# Altium integrated library Lattice Semiconductor ECP3.IntLib: 126 symbols (part 3 of 29)
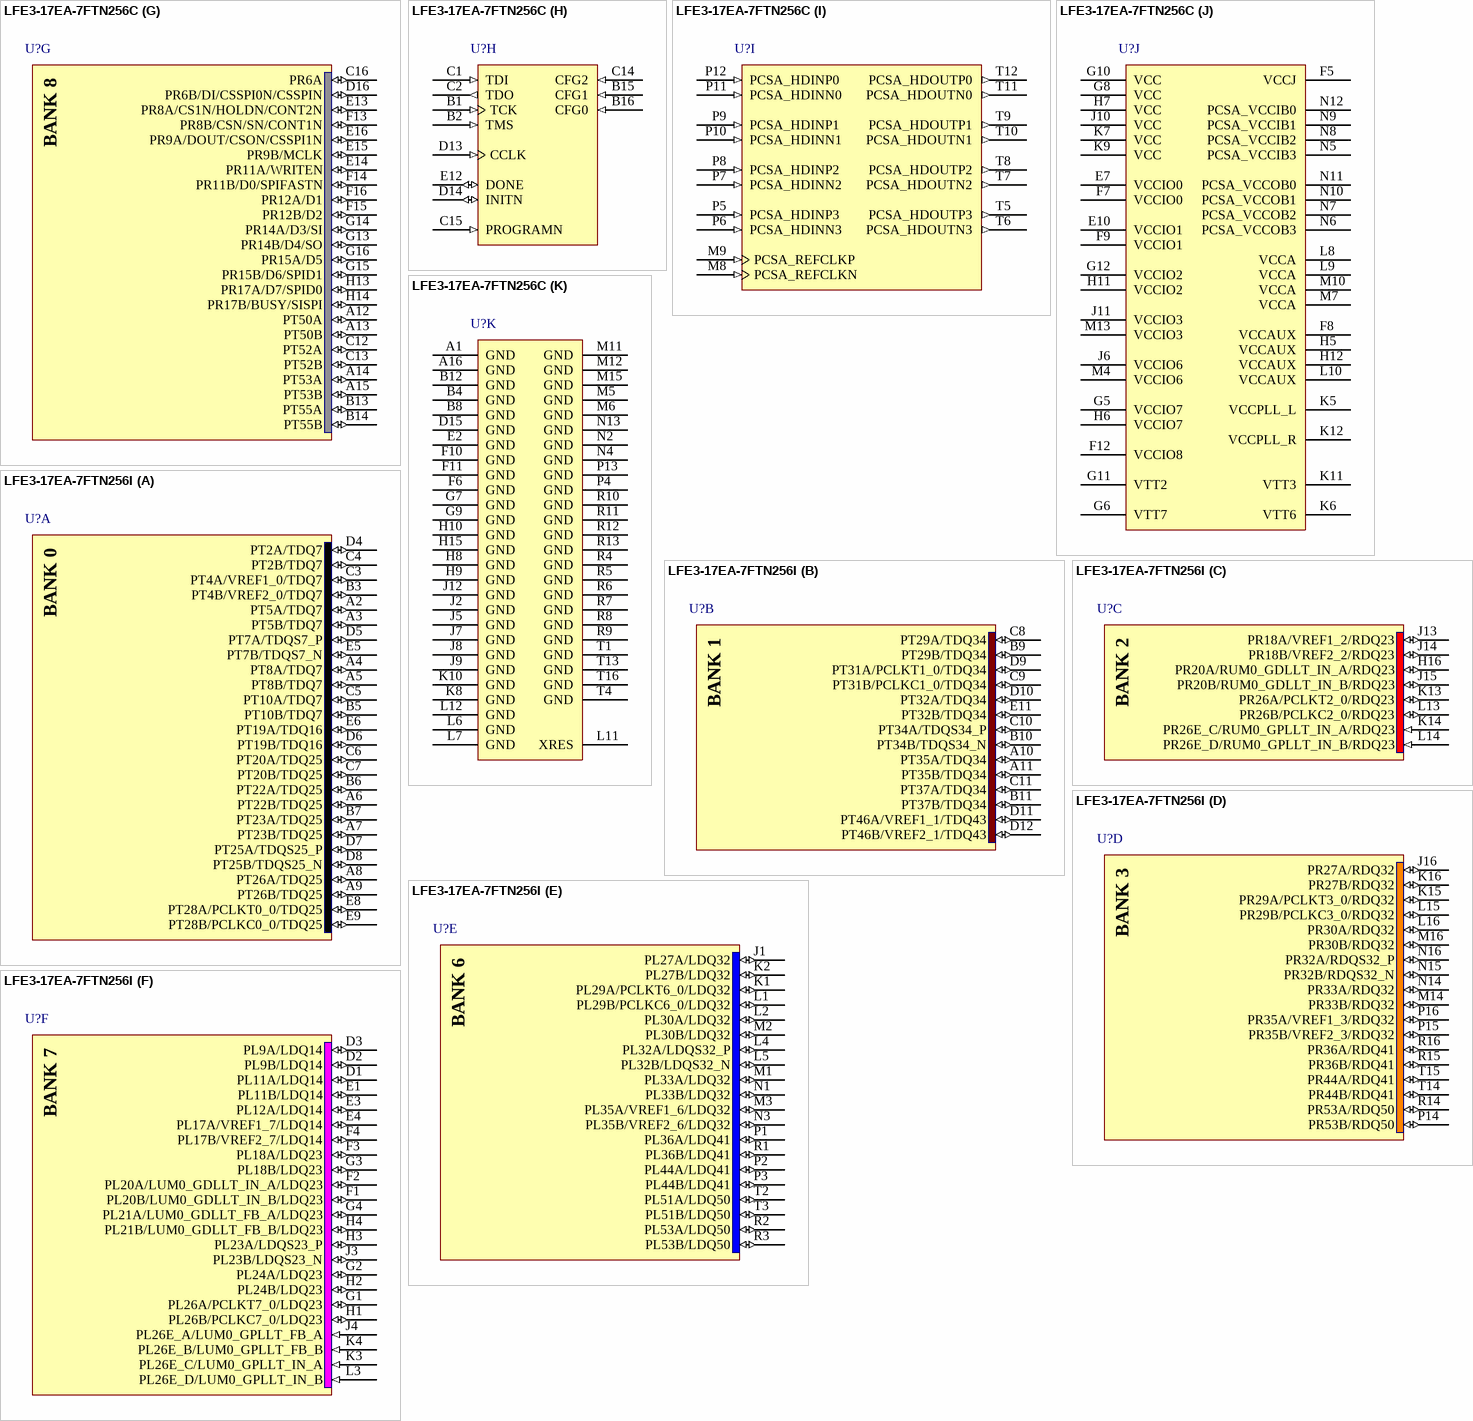
[diagram p258: symbols LFE3-17EA-7FTN256C to LFE3-17EA-7FTN256I]

## LFE3-17EA-7FTN256C
designator U?
ECP3 1.2V FPGA, 133 I/Os, 17K LUTs, 256-Pin BGA, Speed Grade 7, Commercial Grade, Pb-Free; DatasheetVersion: Ver 01.9EA, Jul-2011; PackageVersion: ver02.8, Jul-2011; PackageReference: ftBGA256_2; PackageDescription: 256-Ball ftBGA Package Option 2: LatticeECP3; Code_IPC: BGA100P16X16-256; ComponentLink1Description: Manufacturer URL; ComponentLink1URL: http://www.latticesemi.com/; ComponentLink2Description: Datasheet; ComponentLink2URL: http://www.latticesemi.com/documents/ds1021ea.pdf; ComponentLink3Description: Package Specification; ComponentLink3URL: http://www.latticesemi.com/lit/docs/package/pkg.pdf
footprint ftBGA256_2 (BGA, 256-Leads, Body 17x17mm, Pitch 1mm)
part A pins: A2 PT5A/TDQ7 (io), A3 PT5B/TDQ7 (io), A4 PT8A/TDQ7 (io), A5 PT8B/TDQ7 (io), A6 PT22B/TDQ25 (io), A7 PT23B/TDQ25 (io), A8 PT26A/TDQ25 (io), A9 PT26B/TDQ25 (io), B3 PT4B/VREF2_0/TDQ7 (io), B5 PT10B/TDQ7 (io), B6 PT22A/TDQ25 (io), B7 PT23A/TDQ25 (io), C3 PT4A/VREF1_0/TDQ7 (io), C4 PT2B/TDQ7 (io), C5 PT10A/TDQ7 (io), C6 PT20A/TDQ25 (io), C7 PT20B/TDQ25 (io), D4 PT2A/TDQ7 (io), D5 PT7A/TDQS7_P (io), D6 PT19B/TDQ16 (io), D7 PT25A/TDQS25_P (io), D8 PT25B/TDQS25_N (io), E5 PT7B/TDQS7_N (io), E6 PT19A/TDQ16 (io), E8 PT28A/PCLKT0_0/TDQ25 (io), E9 PT28B/PCLKC0_0/TDQ25 (io)
part B pins: A10 PT35A/TDQ34 (io), A11 PT35B/TDQ34 (io), B9 PT29B/TDQ34 (io), B10 PT34B/TDQS34_N (io), B11 PT37B/TDQ34 (io), C8 PT29A/TDQ34 (io), C9 PT31B/PCLKC1_0/TDQ34 (io), C10 PT34A/TDQS34_P (io), C11 PT37A/TDQ34 (io), D9 PT31A/PCLKT1_0/TDQ34 (io), D10 PT32A/TDQ34 (io), D11 PT46A/VREF1_1/TDQ43 (io), D12 PT46B/VREF2_1/TDQ43 (io), E11 PT32B/TDQ34 (io)
part C pins: H16 PR20A/RUM0_GDLLT_IN_A/RDQ23 (io), J13 PR18A/VREF1_2/RDQ23 (io), J14 PR18B/VREF2_2/RDQ23 (io), J15 PR20B/RUM0_GDLLT_IN_B/RDQ23 (io), K13 PR26A/PCLKT2_0/RDQ23 (io), K14 PR26E_C/RUM0_GPLLT_IN_A/RDQ23 (in), L13 PR26B/PCLKC2_0/RDQ23 (io), L14 PR26E_D/RUM0_GPLLT_IN_B/RDQ23 (in)
part D pins: J16 PR27A/RDQ32 (io), K15 PR29A/PCLKT3_0/RDQ32 (io), K16 PR27B/RDQ32 (io), L15 PR29B/PCLKC3_0/RDQ32 (io), L16 PR30A/RDQ32 (io), M14 PR33B/RDQ32 (io), M16 PR30B/RDQ32 (io), N14 PR33A/RDQ32 (io), N15 PR32B/RDQS32_N (io), N16 PR32A/RDQS32_P (io), P14 PR53B/RDQ50 (io), P15 PR35B/VREF2_3/RDQ32 (io), P16 PR35A/VREF1_3/RDQ32 (io), R14 PR53A/RDQ50 (io), R15 PR36B/RDQ41 (io), R16 PR36A/RDQ41 (io), T14 PR44B/RDQ41 (io), T15 PR44A/RDQ41 (io)
part E pins: J1 PL27A/LDQ32 (io), K1 PL29A/PCLKT6_0/LDQ32 (io), K2 PL27B/LDQ32 (io), L1 PL29B/PCLKC6_0/LDQ32 (io), L2 PL30A/LDQ32 (io), L4 PL32A/LDQS32_P (io), L5 PL32B/LDQS32_N (io), M1 PL33A/LDQ32 (io), M2 PL30B/LDQ32 (io), M3 PL35A/VREF1_6/LDQ32 (io), N1 PL33B/LDQ32 (io), N3 PL35B/VREF2_6/LDQ32 (io), P1 PL36A/LDQ41 (io), P2 PL44A/LDQ41 (io), P3 PL44B/LDQ41 (io), R1 PL36B/LDQ41 (io), R2 PL53A/LDQ50 (io), R3 PL53B/LDQ50 (io), T2 PL51A/LDQ50 (io), T3 PL51B/LDQ50 (io)
part F pins: D1 PL11A/LDQ14 (io), D2 PL9B/LDQ14 (io), D3 PL9A/LDQ14 (io), E1 PL11B/LDQ14 (io), E3 PL12A/LDQ14 (io), E4 PL17A/VREF1_7/LDQ14 (io), F1 PL20B/LUM0_GDLLT_IN_B/LDQ23 (io), F2 PL20A/LUM0_GDLLT_IN_A/LDQ23 (io), F3 PL18A/LDQ23 (io), F4 PL17B/VREF2_7/LDQ14 (io), G1 PL26A/PCLKT7_0/LDQ23 (io), G2 PL24A/LDQ23 (io), G3 PL18B/LDQ23 (io), G4 PL21A/LUM0_GDLLT_FB_A/LDQ23 (io), H1 PL26B/PCLKC7_0/LDQ23 (io), H2 PL24B/LDQ23 (io), H3 PL23A/LDQS23_P (io), H4 PL21B/LUM0_GDLLT_FB_B/LDQ23 (io), J3 PL23B/LDQS23_N (io), J4 PL26E_A/LUM0_GPLLT_FB_A (in), K3 PL26E_C/LUM0_GPLLT_IN_A (in), K4 PL26E_B/LUM0_GPLLT_FB_B (in), L3 PL26E_D/LUM0_GPLLT_IN_B (in)
part G pins: A12 PT50A (io), A13 PT50B (io), A14 PT53A (io), A15 PT53B (io), B13 PT55A (io), B14 PT55B (io), C12 PT52A (io), C13 PT52B (io), C16 PR6A (io), D16 PR6B/DI/CSSPI0N/CSSPIN (io), E13 PR8A/CS1N/HOLDN/CONT2N (io), E14 PR11A/WRITEN (io), E15 PR9B/MCLK (io), E16 PR9A/DOUT/CSON/CSSPI1N (io), F13 PR8B/CSN/SN/CONT1N (io), F14 PR11B/D0/SPIFASTN (io), F15 PR12B/D2 (io), F16 PR12A/D1 (io), G13 PR14B/D4/SO (io), G14 PR14A/D3/SI (io), G15 PR15B/D6/SPID1 (io), G16 PR15A/D5 (io), H13 PR17A/D7/SPID0 (io), H14 PR17B/BUSY/SISPI (io)
part H pins: B1 TCK (in), B2 TMS (in), B15 CFG1 (in), B16 CFG0 (in), C1 TDI (in), C2 TDO (out), C14 CFG2 (in), C15 PROGRAMN (in), D13 CCLK (in), D14 INITN (io), E12 DONE (io)
part I pins: M8 PCSA_REFCLKN (in), M9 PCSA_REFCLKP (in), P5 PCSA_HDINP3 (in), P6 PCSA_HDINN3 (in), P7 PCSA_HDINN2 (in), P8 PCSA_HDINP2 (in), P9 PCSA_HDINP1 (in), P10 PCSA_HDINN1 (in), P11 PCSA_HDINN0 (in), P12 PCSA_HDINP0 (in), T5 PCSA_HDOUTP3 (out), T6 PCSA_HDOUTN3 (out), T7 PCSA_HDOUTN2 (out), T8 PCSA_HDOUTP2 (out), T9 PCSA_HDOUTP1 (out), T10 PCSA_HDOUTN1 (out), T11 PCSA_HDOUTN0 (out), T12 PCSA_HDOUTP0 (out)
part J pins: E7 VCCIO0 (power), E10 VCCIO1 (power), F5 VCCJ (power), F7 VCCIO0 (power), F8 VCCAUX (power), F9 VCCIO1 (power), F12 VCCIO8 (power), G5 VCCIO7 (power), G6 VTT7 (power), G8 VCC (power), G10 VCC (power), G11 VTT2 (power), G12 VCCIO2 (power), H5 VCCAUX (power), H6 VCCIO7 (power), H7 VCC (power), H11 VCCIO2 (power), H12 VCCAUX (power), J6 VCCIO6 (power), J10 VCC (power), J11 VCCIO3 (power), K5 VCCPLL_L (power), K6 VTT6 (power), K7 VCC (power), K9 VCC (power), K11 VTT3 (power), K12 VCCPLL_R (power), L8 VCCA (power), L9 VCCA (power), L10 VCCAUX (power), M4 VCCIO6 (power), M7 VCCA (power), M10 VCCA (power), M13 VCCIO3 (power), N5 PCSA_VCCIB3 (power), N6 PCSA_VCCOB3 (power), N7 PCSA_VCCOB2 (power), N8 PCSA_VCCIB2 (power), N9 PCSA_VCCIB1 (power), N10 PCSA_VCCOB1 (power), N11 PCSA_VCCOB0 (power), N12 PCSA_VCCIB0 (power)
part K pins: A1 GND (power), A16 GND (power), B4 GND (power), B8 GND (power), B12 GND (power), D15 GND (power), E2 GND (power), F6 GND (power), F10 GND (power), F11 GND (power), G7 GND (power), G9 GND (power), H8 GND (power), H9 GND (power), H10 GND (power), H15 GND (power), J2 GND (power), J5 GND (power), J7 GND (power), J8 GND (power), J9 GND (power), J12 GND (power), K8 GND (power), K10 GND (power), L6 GND (power), L7 GND (power), L11 XRES, L12 GND (power), M5 GND (power), M6 GND (power), M11 GND (power), M12 GND (power), M15 GND (power), N2 GND (power), N4 GND (power), N13 GND (power), P4 GND (power), P13 GND (power), R4 GND (power), R5 GND (power), R6 GND (power), R7 GND (power), R8 GND (power), R9 GND (power), R10 GND (power), R11 GND (power), R12 GND (power), R13 GND (power), T1 GND (power), T4 GND (power), T13 GND (power), T16 GND (power)
part A text: BANK 0
part B text: BANK 1
part C text: BANK 2
part D text: BANK 3
part E text: BANK 6
part F text: BANK 7
part G text: BANK 8

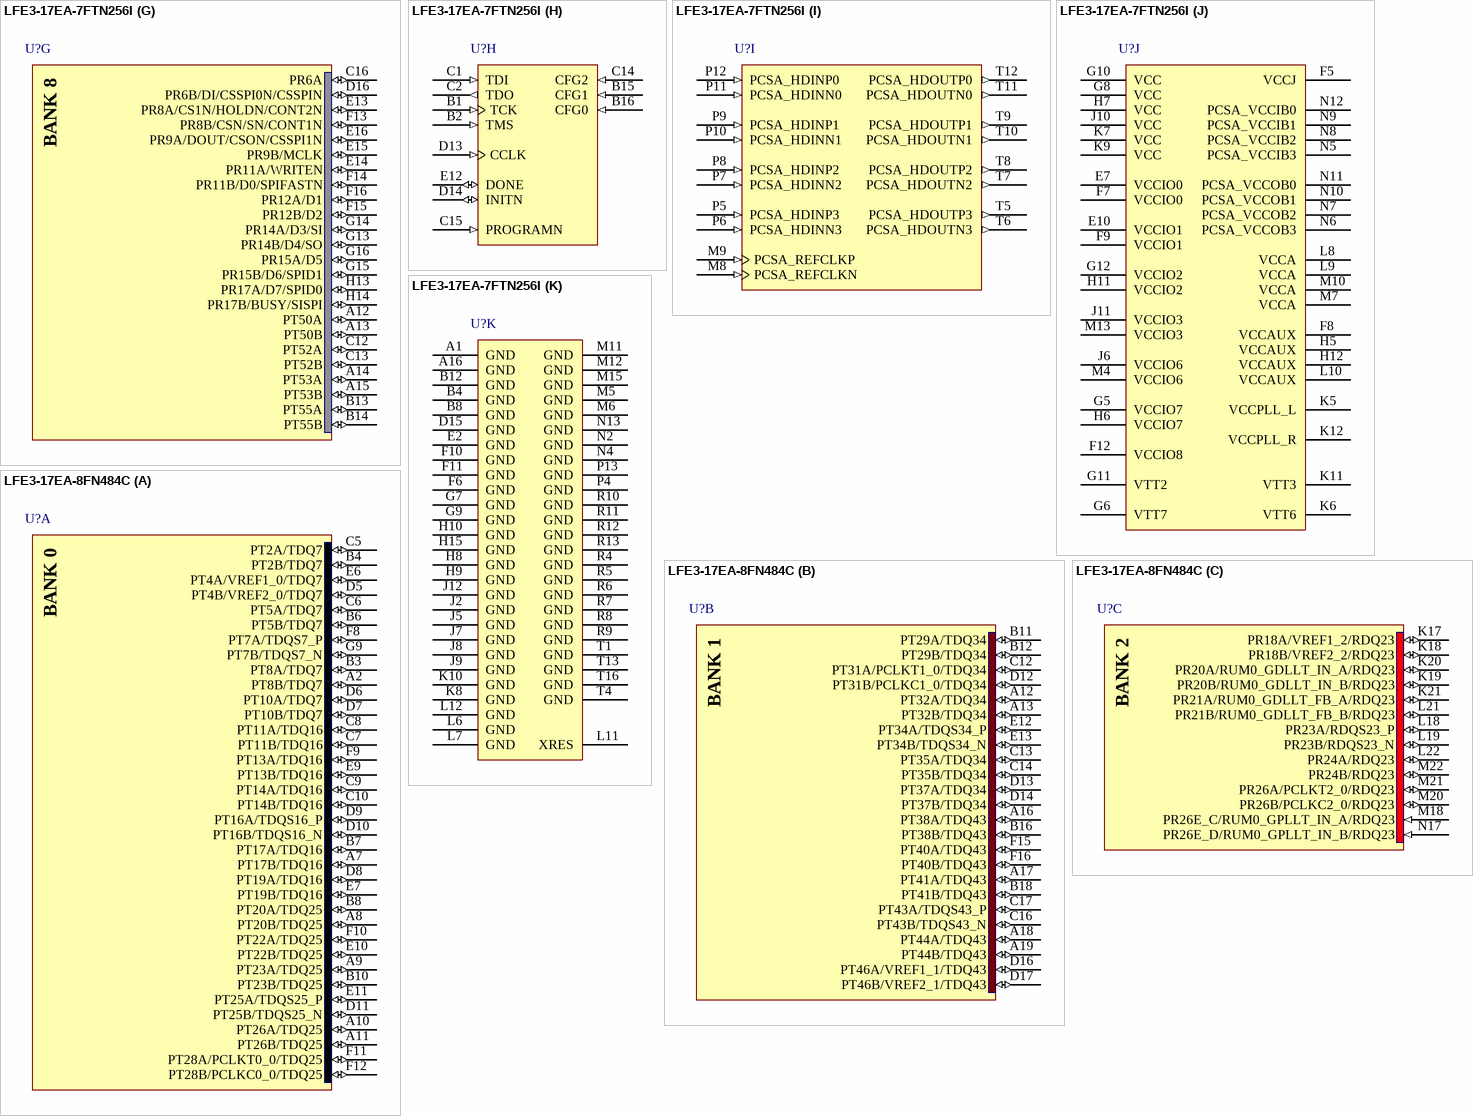
[diagram p9: symbols LFE3-17EA-7FTN256I to LFE3-17EA-8FN484C]

## LFE3-17EA-7FTN256I
designator U?
ECP3 1.2V FPGA, 133 I/Os, 17K LUTs, 256-Pin BGA, Speed Grade 7, Industrial Grade, Pb-Free; DatasheetVersion: Ver 01.9EA, Jul-2011; PackageVersion: ver02.8, Jul-2011; PackageReference: ftBGA256_2; PackageDescription: 256-Ball ftBGA Package Option 2: LatticeECP3; Code_IPC: BGA100P16X16-256; ComponentLink1Description: Manufacturer URL; ComponentLink1URL: http://www.latticesemi.com/; ComponentLink2Description: Datasheet; ComponentLink2URL: http://www.latticesemi.com/documents/ds1021ea.pdf; ComponentLink3Description: Package Specification; ComponentLink3URL: http://www.latticesemi.com/lit/docs/package/pkg.pdf
footprint ftBGA256_2 (BGA, 256-Leads, Body 17x17mm, Pitch 1mm)
part A pins: A2 PT5A/TDQ7 (io), A3 PT5B/TDQ7 (io), A4 PT8A/TDQ7 (io), A5 PT8B/TDQ7 (io), A6 PT22B/TDQ25 (io), A7 PT23B/TDQ25 (io), A8 PT26A/TDQ25 (io), A9 PT26B/TDQ25 (io), B3 PT4B/VREF2_0/TDQ7 (io), B5 PT10B/TDQ7 (io), B6 PT22A/TDQ25 (io), B7 PT23A/TDQ25 (io), C3 PT4A/VREF1_0/TDQ7 (io), C4 PT2B/TDQ7 (io), C5 PT10A/TDQ7 (io), C6 PT20A/TDQ25 (io), C7 PT20B/TDQ25 (io), D4 PT2A/TDQ7 (io), D5 PT7A/TDQS7_P (io), D6 PT19B/TDQ16 (io), D7 PT25A/TDQS25_P (io), D8 PT25B/TDQS25_N (io), E5 PT7B/TDQS7_N (io), E6 PT19A/TDQ16 (io), E8 PT28A/PCLKT0_0/TDQ25 (io), E9 PT28B/PCLKC0_0/TDQ25 (io)
part B pins: A10 PT35A/TDQ34 (io), A11 PT35B/TDQ34 (io), B9 PT29B/TDQ34 (io), B10 PT34B/TDQS34_N (io), B11 PT37B/TDQ34 (io), C8 PT29A/TDQ34 (io), C9 PT31B/PCLKC1_0/TDQ34 (io), C10 PT34A/TDQS34_P (io), C11 PT37A/TDQ34 (io), D9 PT31A/PCLKT1_0/TDQ34 (io), D10 PT32A/TDQ34 (io), D11 PT46A/VREF1_1/TDQ43 (io), D12 PT46B/VREF2_1/TDQ43 (io), E11 PT32B/TDQ34 (io)
part C pins: H16 PR20A/RUM0_GDLLT_IN_A/RDQ23 (io), J13 PR18A/VREF1_2/RDQ23 (io), J14 PR18B/VREF2_2/RDQ23 (io), J15 PR20B/RUM0_GDLLT_IN_B/RDQ23 (io), K13 PR26A/PCLKT2_0/RDQ23 (io), K14 PR26E_C/RUM0_GPLLT_IN_A/RDQ23 (in), L13 PR26B/PCLKC2_0/RDQ23 (io), L14 PR26E_D/RUM0_GPLLT_IN_B/RDQ23 (in)
part D pins: J16 PR27A/RDQ32 (io), K15 PR29A/PCLKT3_0/RDQ32 (io), K16 PR27B/RDQ32 (io), L15 PR29B/PCLKC3_0/RDQ32 (io), L16 PR30A/RDQ32 (io), M14 PR33B/RDQ32 (io), M16 PR30B/RDQ32 (io), N14 PR33A/RDQ32 (io), N15 PR32B/RDQS32_N (io), N16 PR32A/RDQS32_P (io), P14 PR53B/RDQ50 (io), P15 PR35B/VREF2_3/RDQ32 (io), P16 PR35A/VREF1_3/RDQ32 (io), R14 PR53A/RDQ50 (io), R15 PR36B/RDQ41 (io), R16 PR36A/RDQ41 (io), T14 PR44B/RDQ41 (io), T15 PR44A/RDQ41 (io)
part E pins: J1 PL27A/LDQ32 (io), K1 PL29A/PCLKT6_0/LDQ32 (io), K2 PL27B/LDQ32 (io), L1 PL29B/PCLKC6_0/LDQ32 (io), L2 PL30A/LDQ32 (io), L4 PL32A/LDQS32_P (io), L5 PL32B/LDQS32_N (io), M1 PL33A/LDQ32 (io), M2 PL30B/LDQ32 (io), M3 PL35A/VREF1_6/LDQ32 (io), N1 PL33B/LDQ32 (io), N3 PL35B/VREF2_6/LDQ32 (io), P1 PL36A/LDQ41 (io), P2 PL44A/LDQ41 (io), P3 PL44B/LDQ41 (io), R1 PL36B/LDQ41 (io), R2 PL53A/LDQ50 (io), R3 PL53B/LDQ50 (io), T2 PL51A/LDQ50 (io), T3 PL51B/LDQ50 (io)
part F pins: D1 PL11A/LDQ14 (io), D2 PL9B/LDQ14 (io), D3 PL9A/LDQ14 (io), E1 PL11B/LDQ14 (io), E3 PL12A/LDQ14 (io), E4 PL17A/VREF1_7/LDQ14 (io), F1 PL20B/LUM0_GDLLT_IN_B/LDQ23 (io), F2 PL20A/LUM0_GDLLT_IN_A/LDQ23 (io), F3 PL18A/LDQ23 (io), F4 PL17B/VREF2_7/LDQ14 (io), G1 PL26A/PCLKT7_0/LDQ23 (io), G2 PL24A/LDQ23 (io), G3 PL18B/LDQ23 (io), G4 PL21A/LUM0_GDLLT_FB_A/LDQ23 (io), H1 PL26B/PCLKC7_0/LDQ23 (io), H2 PL24B/LDQ23 (io), H3 PL23A/LDQS23_P (io), H4 PL21B/LUM0_GDLLT_FB_B/LDQ23 (io), J3 PL23B/LDQS23_N (io), J4 PL26E_A/LUM0_GPLLT_FB_A (in), K3 PL26E_C/LUM0_GPLLT_IN_A (in), K4 PL26E_B/LUM0_GPLLT_FB_B (in), L3 PL26E_D/LUM0_GPLLT_IN_B (in)
part G pins: A12 PT50A (io), A13 PT50B (io), A14 PT53A (io), A15 PT53B (io), B13 PT55A (io), B14 PT55B (io), C12 PT52A (io), C13 PT52B (io), C16 PR6A (io), D16 PR6B/DI/CSSPI0N/CSSPIN (io), E13 PR8A/CS1N/HOLDN/CONT2N (io), E14 PR11A/WRITEN (io), E15 PR9B/MCLK (io), E16 PR9A/DOUT/CSON/CSSPI1N (io), F13 PR8B/CSN/SN/CONT1N (io), F14 PR11B/D0/SPIFASTN (io), F15 PR12B/D2 (io), F16 PR12A/D1 (io), G13 PR14B/D4/SO (io), G14 PR14A/D3/SI (io), G15 PR15B/D6/SPID1 (io), G16 PR15A/D5 (io), H13 PR17A/D7/SPID0 (io), H14 PR17B/BUSY/SISPI (io)
part H pins: B1 TCK (in), B2 TMS (in), B15 CFG1 (in), B16 CFG0 (in), C1 TDI (in), C2 TDO (out), C14 CFG2 (in), C15 PROGRAMN (in), D13 CCLK (in), D14 INITN (io), E12 DONE (io)
part I pins: M8 PCSA_REFCLKN (in), M9 PCSA_REFCLKP (in), P5 PCSA_HDINP3 (in), P6 PCSA_HDINN3 (in), P7 PCSA_HDINN2 (in), P8 PCSA_HDINP2 (in), P9 PCSA_HDINP1 (in), P10 PCSA_HDINN1 (in), P11 PCSA_HDINN0 (in), P12 PCSA_HDINP0 (in), T5 PCSA_HDOUTP3 (out), T6 PCSA_HDOUTN3 (out), T7 PCSA_HDOUTN2 (out), T8 PCSA_HDOUTP2 (out), T9 PCSA_HDOUTP1 (out), T10 PCSA_HDOUTN1 (out), T11 PCSA_HDOUTN0 (out), T12 PCSA_HDOUTP0 (out)
part J pins: E7 VCCIO0 (power), E10 VCCIO1 (power), F5 VCCJ (power), F7 VCCIO0 (power), F8 VCCAUX (power), F9 VCCIO1 (power), F12 VCCIO8 (power), G5 VCCIO7 (power), G6 VTT7 (power), G8 VCC (power), G10 VCC (power), G11 VTT2 (power), G12 VCCIO2 (power), H5 VCCAUX (power), H6 VCCIO7 (power), H7 VCC (power), H11 VCCIO2 (power), H12 VCCAUX (power), J6 VCCIO6 (power), J10 VCC (power), J11 VCCIO3 (power), K5 VCCPLL_L (power), K6 VTT6 (power), K7 VCC (power), K9 VCC (power), K11 VTT3 (power), K12 VCCPLL_R (power), L8 VCCA (power), L9 VCCA (power), L10 VCCAUX (power), M4 VCCIO6 (power), M7 VCCA (power), M10 VCCA (power), M13 VCCIO3 (power), N5 PCSA_VCCIB3 (power), N6 PCSA_VCCOB3 (power), N7 PCSA_VCCOB2 (power), N8 PCSA_VCCIB2 (power), N9 PCSA_VCCIB1 (power), N10 PCSA_VCCOB1 (power), N11 PCSA_VCCOB0 (power), N12 PCSA_VCCIB0 (power)
part K pins: A1 GND (power), A16 GND (power), B4 GND (power), B8 GND (power), B12 GND (power), D15 GND (power), E2 GND (power), F6 GND (power), F10 GND (power), F11 GND (power), G7 GND (power), G9 GND (power), H8 GND (power), H9 GND (power), H10 GND (power), H15 GND (power), J2 GND (power), J5 GND (power), J7 GND (power), J8 GND (power), J9 GND (power), J12 GND (power), K8 GND (power), K10 GND (power), L6 GND (power), L7 GND (power), L11 XRES, L12 GND (power), M5 GND (power), M6 GND (power), M11 GND (power), M12 GND (power), M15 GND (power), N2 GND (power), N4 GND (power), N13 GND (power), P4 GND (power), P13 GND (power), R4 GND (power), R5 GND (power), R6 GND (power), R7 GND (power), R8 GND (power), R9 GND (power), R10 GND (power), R11 GND (power), R12 GND (power), R13 GND (power), T1 GND (power), T4 GND (power), T13 GND (power), T16 GND (power)
part A text: BANK 0
part B text: BANK 1
part C text: BANK 2
part D text: BANK 3
part E text: BANK 6
part F text: BANK 7
part G text: BANK 8

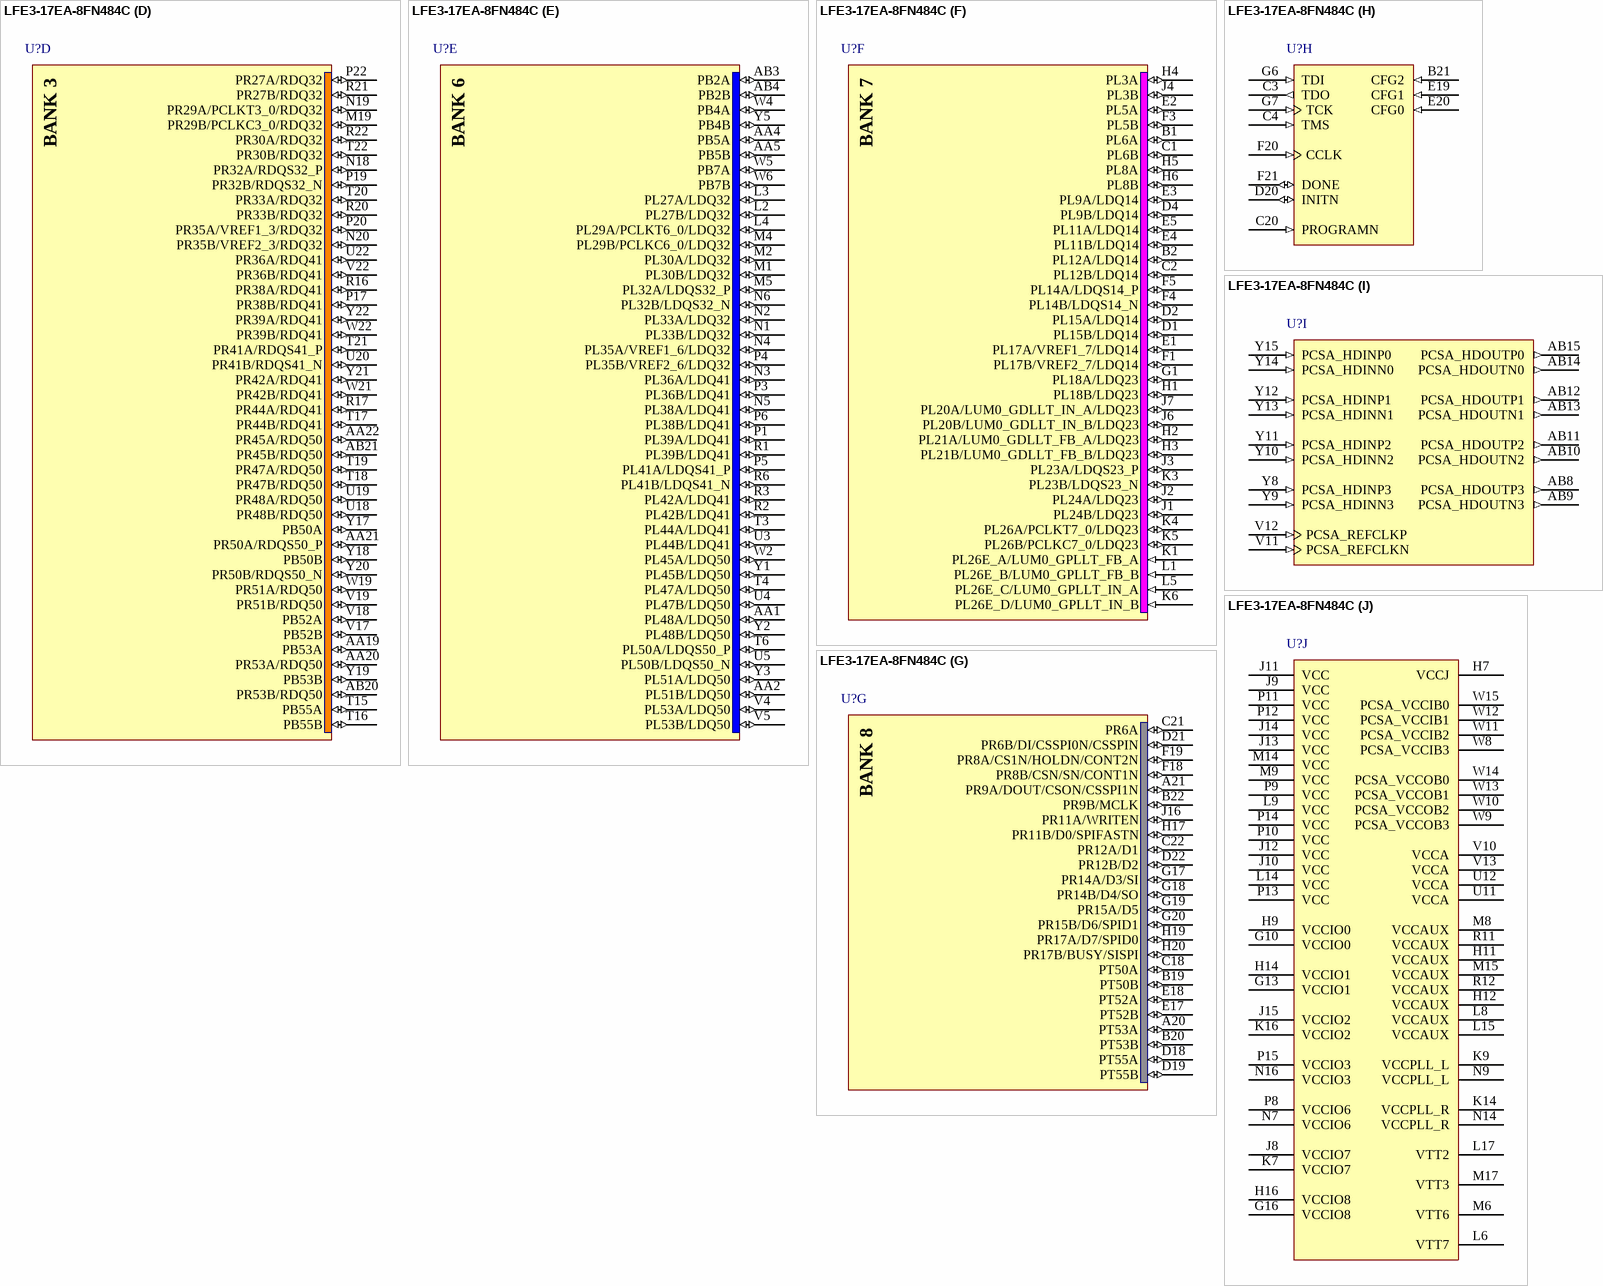
[diagram p10: symbol LFE3-17EA-8FN484C]

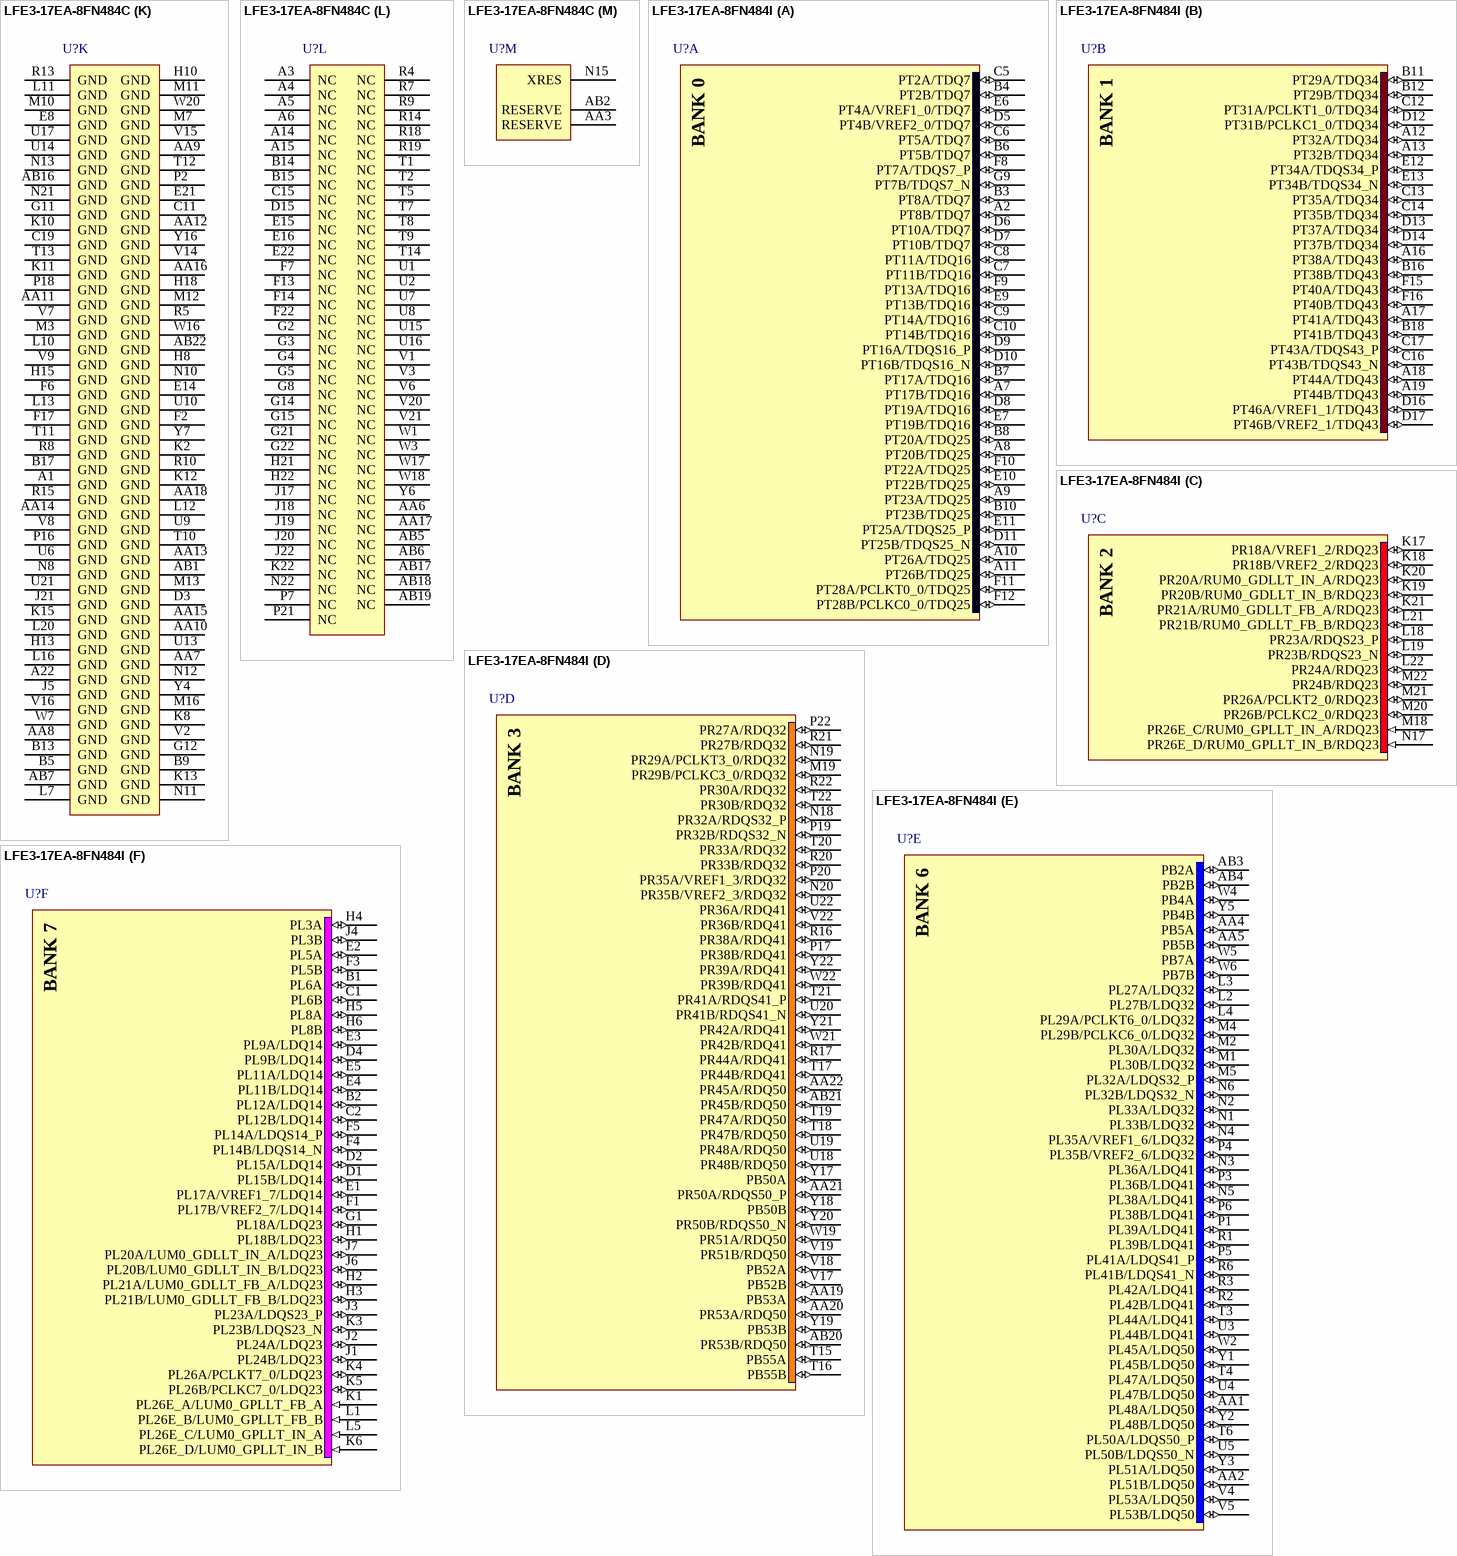
[diagram p11: symbols LFE3-17EA-8FN484C to LFE3-17EA-8FN484I]

## LFE3-17EA-8FN484C
designator U?
ECP3 1.2V FPGA, 222 I/Os, 17K LUTs, 484-Pin BGA, Speed Grade 8, Commercial Grade, Pb-Free; DatasheetVersion: Ver 01.9EA, Jul-2011; PackageVersion: ver02.8, Jul-2011; PackageReference: fpBGA484; PackageDescription: 484-Ball Fine Pitch Ball Grid Array (fpBGA484); Code_IPC: BGA100P22X22-484; ComponentLink1Description: Manufacturer URL; ComponentLink1URL: http://www.latticesemi.com/; ComponentLink2Description: Datasheet; ComponentLink2URL: http://www.latticesemi.com/documents/ds1021ea.pdf; ComponentLink3Description: Package Specification; ComponentLink3URL: http://www.latticesemi.com/lit/docs/package/pkg.pdf
footprint fpBGA484 (BGA, 484-Leads, Body 23x23mm, Pitch 1mm)
part A pins: A2 PT8B/TDQ7 (io), A7 PT17B/TDQ16 (io), A8 PT20B/TDQ25 (io), A9 PT23A/TDQ25 (io), A10 PT26A/TDQ25 (io), A11 PT26B/TDQ25 (io), B3 PT8A/TDQ7 (io), B4 PT2B/TDQ7 (io), B6 PT5B/TDQ7 (io), B7 PT17A/TDQ16 (io), B8 PT20A/TDQ25 (io), B10 PT23B/TDQ25 (io), C5 PT2A/TDQ7 (io), C6 PT5A/TDQ7 (io), C7 PT11B/TDQ16 (io), C8 PT11A/TDQ16 (io), C9 PT14A/TDQ16 (io), C10 PT14B/TDQ16 (io), D5 PT4B/VREF2_0/TDQ7 (io), D6 PT10A/TDQ7 (io), D7 PT10B/TDQ7 (io), D8 PT19A/TDQ16 (io), D9 PT16A/TDQS16_P (io), D10 PT16B/TDQS16_N (io), D11 PT25B/TDQS25_N (io), E6 PT4A/VREF1_0/TDQ7 (io), E7 PT19B/TDQ16 (io), E9 PT13B/TDQ16 (io), E10 PT22B/TDQ25 (io), E11 PT25A/TDQS25_P (io), F8 PT7A/TDQS7_P (io), F9 PT13A/TDQ16 (io), F10 PT22A/TDQ25 (io), F11 PT28A/PCLKT0_0/TDQ25 (io), F12 PT28B/PCLKC0_0/TDQ25 (io), G9 PT7B/TDQS7_N (io)
part B pins: A12 PT32A/TDQ34 (io), A13 PT32B/TDQ34 (io), A16 PT38A/TDQ43 (io), A17 PT41A/TDQ43 (io), A18 PT44A/TDQ43 (io), A19 PT44B/TDQ43 (io), B11 PT29A/TDQ34 (io), B12 PT29B/TDQ34 (io), B16 PT38B/TDQ43 (io), B18 PT41B/TDQ43 (io), C12 PT31A/PCLKT1_0/TDQ34 (io), C13 PT35A/TDQ34 (io), C14 PT35B/TDQ34 (io), C16 PT43B/TDQS43_N (io), C17 PT43A/TDQS43_P (io), D12 PT31B/PCLKC1_0/TDQ34 (io), D13 PT37A/TDQ34 (io), D14 PT37B/TDQ34 (io), D16 PT46A/VREF1_1/TDQ43 (io), D17 PT46B/VREF2_1/TDQ43 (io), E12 PT34A/TDQS34_P (io), E13 PT34B/TDQS34_N (io), F15 PT40A/TDQ43 (io), F16 PT40B/TDQ43 (io)
part C pins: K17 PR18A/VREF1_2/RDQ23 (io), K18 PR18B/VREF2_2/RDQ23 (io), K19 PR20B/RUM0_GDLLT_IN_B/RDQ23 (io), K20 PR20A/RUM0_GDLLT_IN_A/RDQ23 (io), K21 PR21A/RUM0_GDLLT_FB_A/RDQ23 (io), L18 PR23A/RDQS23_P (io), L19 PR23B/RDQS23_N (io), L21 PR21B/RUM0_GDLLT_FB_B/RDQ23 (io), L22 PR24A/RDQ23 (io), M18 PR26E_C/RUM0_GPLLT_IN_A/RDQ23 (in), M20 PR26B/PCLKC2_0/RDQ23 (io), M21 PR26A/PCLKT2_0/RDQ23 (io), M22 PR24B/RDQ23 (io), N17 PR26E_D/RUM0_GPLLT_IN_B/RDQ23 (in)
part D pins: AA19 PB53A (io), AA20 PR53A/RDQ50 (io), AA21 PR50A/RDQS50_P (io), AA22 PR45A/RDQ50 (io), AB20 PR53B/RDQ50 (io), AB21 PR45B/RDQ50 (io), M19 PR29B/PCLKC3_0/RDQ32 (io), N18 PR32A/RDQS32_P (io), N19 PR29A/PCLKT3_0/RDQ32 (io), N20 PR35B/VREF2_3/RDQ32 (io), P17 PR38B/RDQ41 (io), P19 PR32B/RDQS32_N (io), P20 PR35A/VREF1_3/RDQ32 (io), P22 PR27A/RDQ32 (io), R16 PR38A/RDQ41 (io), R17 PR44A/RDQ41 (io), R20 PR33B/RDQ32 (io), R21 PR27B/RDQ32 (io), R22 PR30A/RDQ32 (io), T15 PB55A (io), T16 PB55B (io), T17 PR44B/RDQ41 (io), T18 PR47B/RDQ50 (io), T19 PR47A/RDQ50 (io), T20 PR33A/RDQ32 (io), T21 PR41A/RDQS41_P (io), T22 PR30B/RDQ32 (io), U18 PR48B/RDQ50 (io), U19 PR48A/RDQ50 (io), U20 PR41B/RDQS41_N (io), U22 PR36A/RDQ41 (io), V17 PB52B (io), V18 PB52A (io), V19 PR51B/RDQ50 (io), V22 PR36B/RDQ41 (io), W19 PR51A/RDQ50 (io), W21 PR42B/RDQ41 (io), W22 PR39B/RDQ41 (io), Y17 PB50A (io), Y18 PB50B (io), Y19 PB53B (io), Y20 PR50B/RDQS50_N (io), Y21 PR42A/RDQ41 (io), Y22 PR39A/RDQ41 (io)
part E pins: AA1 PL48A/LDQ50 (io), AA2 PL51B/LDQ50 (io), AA4 PB5A (io), AA5 PB5B (io), AB3 PB2A (io), AB4 PB2B (io), L2 PL27B/LDQ32 (io), L3 PL27A/LDQ32 (io), L4 PL29A/PCLKT6_0/LDQ32 (io), M1 PL30B/LDQ32 (io), M2 PL30A/LDQ32 (io), M4 PL29B/PCLKC6_0/LDQ32 (io), M5 PL32A/LDQS32_P (io), N1 PL33B/LDQ32 (io), N2 PL33A/LDQ32 (io), N3 PL36A/LDQ41 (io), N4 PL35A/VREF1_6/LDQ32 (io), N5 PL38A/LDQ41 (io), N6 PL32B/LDQS32_N (io), P1 PL39A/LDQ41 (io), P3 PL36B/LDQ41 (io), P4 PL35B/VREF2_6/LDQ32 (io), P5 PL41A/LDQS41_P (io), P6 PL38B/LDQ41 (io), R1 PL39B/LDQ41 (io), R2 PL42B/LDQ41 (io), R3 PL42A/LDQ41 (io), R6 PL41B/LDQS41_N (io), T3 PL44A/LDQ41 (io), T4 PL47A/LDQ50 (io), T6 PL50A/LDQS50_P (io), U3 PL44B/LDQ41 (io), U4 PL47B/LDQ50 (io), U5 PL50B/LDQS50_N (io), V4 PL53A/LDQ50 (io), V5 PL53B/LDQ50 (io), W2 PL45A/LDQ50 (io), W4 PB4A (io), W5 PB7A (io), W6 PB7B (io), Y1 PL45B/LDQ50 (io), Y2 PL48B/LDQ50 (io), Y3 PL51A/LDQ50 (io), Y5 PB4B (io)
part F pins: B1 PL6A (io), B2 PL12A/LDQ14 (io), C1 PL6B (io), C2 PL12B/LDQ14 (io), D1 PL15B/LDQ14 (io), D2 PL15A/LDQ14 (io), D4 PL9B/LDQ14 (io), E1 PL17A/VREF1_7/LDQ14 (io), E2 PL5A (io), E3 PL9A/LDQ14 (io), E4 PL11B/LDQ14 (io), E5 PL11A/LDQ14 (io), F1 PL17B/VREF2_7/LDQ14 (io), F3 PL5B (io), F4 PL14B/LDQS14_N (io), F5 PL14A/LDQS14_P (io), G1 PL18A/LDQ23 (io), H1 PL18B/LDQ23 (io), H2 PL21A/LUM0_GDLLT_FB_A/LDQ23 (io), H3 PL21B/LUM0_GDLLT_FB_B/LDQ23 (io), H4 PL3A (io), H5 PL8A (io), H6 PL8B (io), J1 PL24B/LDQ23 (io), J2 PL24A/LDQ23 (io), J3 PL23A/LDQS23_P (io), J4 PL3B (io), J6 PL20B/LUM0_GDLLT_IN_B/LDQ23 (io), J7 PL20A/LUM0_GDLLT_IN_A/LDQ23 (io), K1 PL26E_A/LUM0_GPLLT_FB_A (in), K3 PL23B/LDQS23_N (io), K4 PL26A/PCLKT7_0/LDQ23 (io), K5 PL26B/PCLKC7_0/LDQ23 (io), K6 PL26E_D/LUM0_GPLLT_IN_B (in), L1 PL26E_B/LUM0_GPLLT_FB_B (in), L5 PL26E_C/LUM0_GPLLT_IN_A (in)
part G pins: A20 PT53A (io), A21 PR9A/DOUT/CSON/CSSPI1N (io), B19 PT50B (io), B20 PT53B (io), B22 PR9B/MCLK (io), C18 PT50A (io), C21 PR6A (io), C22 PR12A/D1 (io), D18 PT55A (io), D19 PT55B (io), D21 PR6B/DI/CSSPI0N/CSSPIN (io), D22 PR12B/D2 (io), E17 PT52B (io), E18 PT52A (io), F18 PR8B/CSN/SN/CONT1N (io), F19 PR8A/CS1N/HOLDN/CONT2N (io), G17 PR14A/D3/SI (io), G18 PR14B/D4/SO (io), G19 PR15A/D5 (io), G20 PR15B/D6/SPID1 (io), H17 PR11B/D0/SPIFASTN (io), H19 PR17A/D7/SPID0 (io), H20 PR17B/BUSY/SISPI (io), J16 PR11A/WRITEN (io)
part H pins: B21 CFG2 (in), C3 TDO (out), C4 TMS (in), C20 PROGRAMN (in), D20 INITN (io), E19 CFG1 (in), E20 CFG0 (in), F20 CCLK (in), F21 DONE (io), G6 TDI (in), G7 TCK (in)
part I pins: AB8 PCSA_HDOUTP3 (out), AB9 PCSA_HDOUTN3 (out), AB10 PCSA_HDOUTN2 (out), AB11 PCSA_HDOUTP2 (out), AB12 PCSA_HDOUTP1 (out), AB13 PCSA_HDOUTN1 (out), AB14 PCSA_HDOUTN0 (out), AB15 PCSA_HDOUTP0 (out), V11 PCSA_REFCLKN (in), V12 PCSA_REFCLKP (in), Y8 PCSA_HDINP3 (in), Y9 PCSA_HDINN3 (in), Y10 PCSA_HDINN2 (in), Y11 PCSA_HDINP2 (in), Y12 PCSA_HDINP1 (in), Y13 PCSA_HDINN1 (in), Y14 PCSA_HDINN0 (in), Y15 PCSA_HDINP0 (in)
part J pins: G10 VCCIO0 (power), G13 VCCIO1 (power), G16 VCCIO8 (power), H7 VCCJ (power), H9 VCCIO0 (power), H11 VCCAUX (power), H12 VCCAUX (power), H14 VCCIO1 (power), H16 VCCIO8 (power), J8 VCCIO7 (power), J9 VCC (power), J10 VCC (power), J11 VCC (power), J12 VCC (power), J13 VCC (power), J14 VCC (power), J15 VCCIO2 (power), K7 VCCIO7 (power), K9 VCCPLL_L (power), K14 VCCPLL_R (power), K16 VCCIO2 (power), L6 VTT7 (power), L8 VCCAUX (power), L9 VCC (power), L14 VCC (power), L15 VCCAUX (power), L17 VTT2 (power), M6 VTT6 (power), M8 VCCAUX (power), M9 VCC (power), M14 VCC (power), M15 VCCAUX (power), M17 VTT3 (power), N7 VCCIO6 (power), N9 VCCPLL_L (power), N14 VCCPLL_R (power), N16 VCCIO3 (power), P8 VCCIO6 (power), P9 VCC (power), P10 VCC (power), P11 VCC (power), P12 VCC (power), P13 VCC (power), P14 VCC (power), P15 VCCIO3 (power), R11 VCCAUX (power), R12 VCCAUX (power), U11 VCCA (power), U12 VCCA (power), V10 VCCA (power), V13 VCCA (power), W8 PCSA_VCCIB3 (power), W9 PCSA_VCCOB3 (power), W10 PCSA_VCCOB2 (power), W11 PCSA_VCCIB2 (power), W12 PCSA_VCCIB1 (power), W13 PCSA_VCCOB1 (power), W14 PCSA_VCCOB0 (power), W15 PCSA_VCCIB0 (power)
part K pins: A1 GND (power), A22 GND (power), AA7 GND (power), AA8 GND (power), AA9 GND (power), AA10 GND (power), AA11 GND (power), AA12 GND (power), AA13 GND (power), AA14 GND (power), AA15 GND (power), AA16 GND (power), AA18 GND (power), AB1 GND (power), AB7 GND (power), AB16 GND (power), AB22 GND (power), B5 GND (power), B9 GND (power), B13 GND (power), B17 GND (power), C11 GND (power), C19 GND (power), D3 GND (power), E8 GND (power), E14 GND (power), E21 GND (power), F2 GND (power), F6 GND (power), F17 GND (power), G11 GND (power), G12 GND (power), H8 GND (power), H10 GND (power), H13 GND (power), H15 GND (power), H18 GND (power), J5 GND (power), J21 GND (power), K2 GND (power), K8 GND (power), K10 GND (power), K11 GND (power), K12 GND (power), K13 GND (power), K15 GND (power), L7 GND (power), L10 GND (power), L11 GND (power), L12 GND (power), L13 GND (power), L16 GND (power), L20 GND (power), M3 GND (power), M7 GND (power), M10 GND (power), M11 GND (power), M12 GND (power), M13 GND (power), M16 GND (power), N8 GND (power), N10 GND (power), N11 GND (power), N12 GND (power), N13 GND (power), N21 GND (power), P2 GND (power), P16 GND (power), P18 GND (power), R5 GND (power), R8 GND (power), R10 GND (power), R13 GND (power), R15 GND (power), T10 GND (power), T11 GND (power), T12 GND (power), T13 GND (power), U6 GND (power), U9 GND (power), U10 GND (power), U13 GND (power), U14 GND (power), U17 GND (power), U21 GND (power), V2 GND (power), V7 GND (power), V8 GND (power), V9 GND (power), V14 GND (power), V15 GND (power), V16 GND (power), W7 GND (power), W16 GND (power), W20 GND (power), Y4 GND (power), Y7 GND (power), Y16 GND (power)
part L pins: A3 NC, A4 NC, A5 NC, A6 NC, A14 NC, A15 NC, AA6 NC, AA17 NC, AB5 NC, AB6 NC, AB17 NC, AB18 NC, AB19 NC, B14 NC, B15 NC, C15 NC, D15 NC, E15 NC, E16 NC, E22 NC, F7 NC, F13 NC, F14 NC, F22 NC, G2 NC, G3 NC, G4 NC, G5 NC, G8 NC, G14 NC, G15 NC, G21 NC, G22 NC, H21 NC, H22 NC, J17 NC, J18 NC, J19 NC, J20 NC, J22 NC, K22 NC, N22 NC, P7 NC, P21 NC, R4 NC, R7 NC, R9 NC, R14 NC, R18 NC, R19 NC, T1 NC, T2 NC, T5 NC, T7 NC, T8 NC, T9 NC, T14 NC, U1 NC, U2 NC, U7 NC, U8 NC, U15 NC, U16 NC, V1 NC, V3 NC, V6 NC, V20 NC, V21 NC, W1 NC, W3 NC, W17 NC, W18 NC, Y6 NC
part M pins: AA3 RESERVE, AB2 RESERVE, N15 XRES
part A text: BANK 0
part B text: BANK 1
part C text: BANK 2
part D text: BANK 3
part E text: BANK 6
part F text: BANK 7
part G text: BANK 8

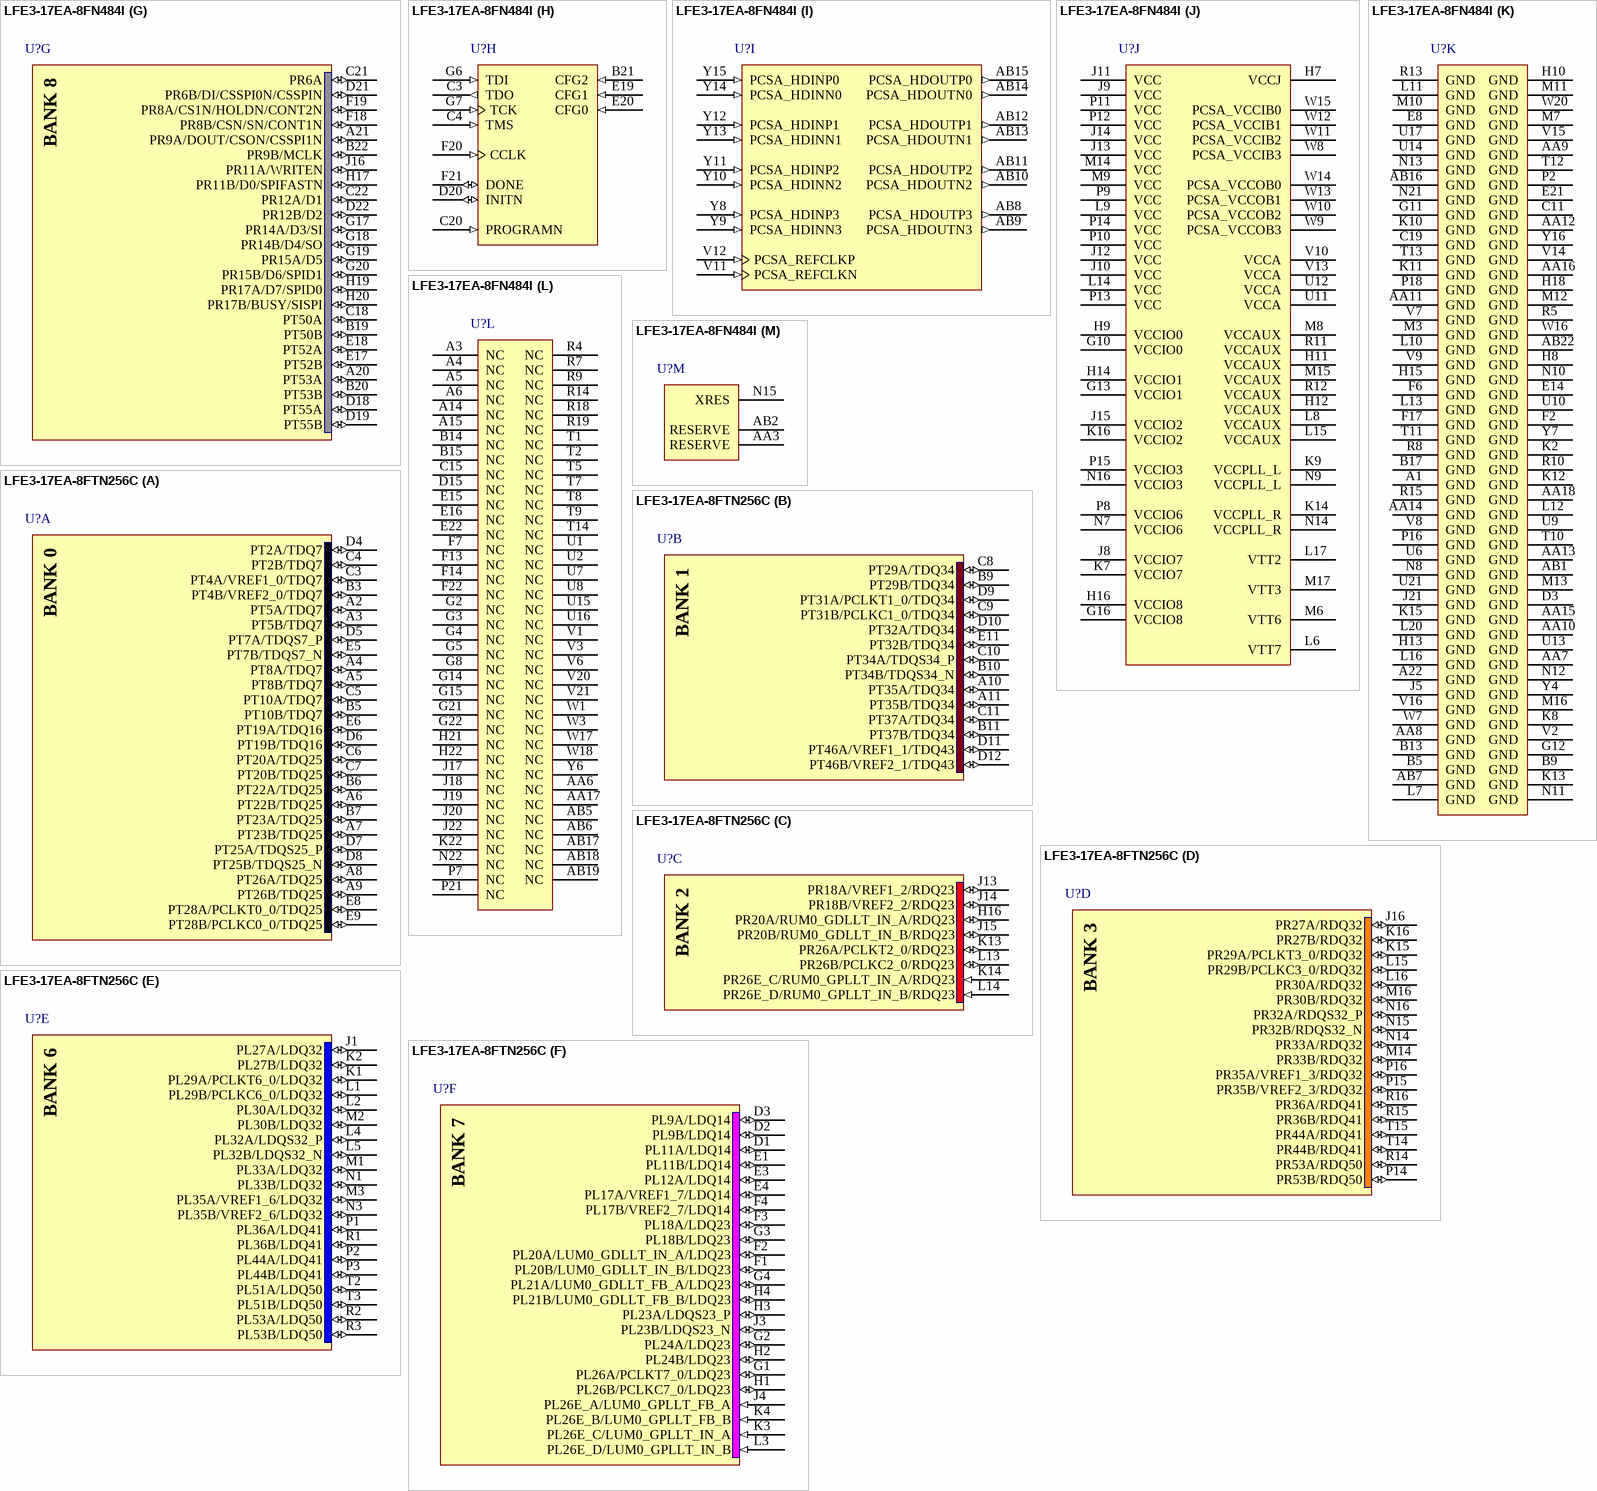
[diagram p12: symbols LFE3-17EA-8FN484I to LFE3-17EA-8FTN256C]

## LFE3-17EA-8FN484I
designator U?
ECP3 1.2V FPGA, 222 I/Os, 17K LUTs, 484-Pin BGA, Speed Grade 8, Industrial Grade, Pb-Free; DatasheetVersion: Ver 01.9EA, Jul-2011; PackageVersion: ver02.8, Jul-2011; PackageReference: fpBGA484; PackageDescription: 484-Ball Fine Pitch Ball Grid Array (fpBGA484); Code_IPC: BGA100P22X22-484; ComponentLink1Description: Manufacturer URL; ComponentLink1URL: http://www.latticesemi.com/; ComponentLink2Description: Datasheet; ComponentLink2URL: http://www.latticesemi.com/documents/ds1021ea.pdf; ComponentLink3Description: Package Specification; ComponentLink3URL: http://www.latticesemi.com/lit/docs/package/pkg.pdf
footprint fpBGA484 (BGA, 484-Leads, Body 23x23mm, Pitch 1mm)
part A pins: A2 PT8B/TDQ7 (io), A7 PT17B/TDQ16 (io), A8 PT20B/TDQ25 (io), A9 PT23A/TDQ25 (io), A10 PT26A/TDQ25 (io), A11 PT26B/TDQ25 (io), B3 PT8A/TDQ7 (io), B4 PT2B/TDQ7 (io), B6 PT5B/TDQ7 (io), B7 PT17A/TDQ16 (io), B8 PT20A/TDQ25 (io), B10 PT23B/TDQ25 (io), C5 PT2A/TDQ7 (io), C6 PT5A/TDQ7 (io), C7 PT11B/TDQ16 (io), C8 PT11A/TDQ16 (io), C9 PT14A/TDQ16 (io), C10 PT14B/TDQ16 (io), D5 PT4B/VREF2_0/TDQ7 (io), D6 PT10A/TDQ7 (io), D7 PT10B/TDQ7 (io), D8 PT19A/TDQ16 (io), D9 PT16A/TDQS16_P (io), D10 PT16B/TDQS16_N (io), D11 PT25B/TDQS25_N (io), E6 PT4A/VREF1_0/TDQ7 (io), E7 PT19B/TDQ16 (io), E9 PT13B/TDQ16 (io), E10 PT22B/TDQ25 (io), E11 PT25A/TDQS25_P (io), F8 PT7A/TDQS7_P (io), F9 PT13A/TDQ16 (io), F10 PT22A/TDQ25 (io), F11 PT28A/PCLKT0_0/TDQ25 (io), F12 PT28B/PCLKC0_0/TDQ25 (io), G9 PT7B/TDQS7_N (io)
part B pins: A12 PT32A/TDQ34 (io), A13 PT32B/TDQ34 (io), A16 PT38A/TDQ43 (io), A17 PT41A/TDQ43 (io), A18 PT44A/TDQ43 (io), A19 PT44B/TDQ43 (io), B11 PT29A/TDQ34 (io), B12 PT29B/TDQ34 (io), B16 PT38B/TDQ43 (io), B18 PT41B/TDQ43 (io), C12 PT31A/PCLKT1_0/TDQ34 (io), C13 PT35A/TDQ34 (io), C14 PT35B/TDQ34 (io), C16 PT43B/TDQS43_N (io), C17 PT43A/TDQS43_P (io), D12 PT31B/PCLKC1_0/TDQ34 (io), D13 PT37A/TDQ34 (io), D14 PT37B/TDQ34 (io), D16 PT46A/VREF1_1/TDQ43 (io), D17 PT46B/VREF2_1/TDQ43 (io), E12 PT34A/TDQS34_P (io), E13 PT34B/TDQS34_N (io), F15 PT40A/TDQ43 (io), F16 PT40B/TDQ43 (io)
part C pins: K17 PR18A/VREF1_2/RDQ23 (io), K18 PR18B/VREF2_2/RDQ23 (io), K19 PR20B/RUM0_GDLLT_IN_B/RDQ23 (io), K20 PR20A/RUM0_GDLLT_IN_A/RDQ23 (io), K21 PR21A/RUM0_GDLLT_FB_A/RDQ23 (io), L18 PR23A/RDQS23_P (io), L19 PR23B/RDQS23_N (io), L21 PR21B/RUM0_GDLLT_FB_B/RDQ23 (io), L22 PR24A/RDQ23 (io), M18 PR26E_C/RUM0_GPLLT_IN_A/RDQ23 (in), M20 PR26B/PCLKC2_0/RDQ23 (io), M21 PR26A/PCLKT2_0/RDQ23 (io), M22 PR24B/RDQ23 (io), N17 PR26E_D/RUM0_GPLLT_IN_B/RDQ23 (in)
part D pins: AA19 PB53A (io), AA20 PR53A/RDQ50 (io), AA21 PR50A/RDQS50_P (io), AA22 PR45A/RDQ50 (io), AB20 PR53B/RDQ50 (io), AB21 PR45B/RDQ50 (io), M19 PR29B/PCLKC3_0/RDQ32 (io), N18 PR32A/RDQS32_P (io), N19 PR29A/PCLKT3_0/RDQ32 (io), N20 PR35B/VREF2_3/RDQ32 (io), P17 PR38B/RDQ41 (io), P19 PR32B/RDQS32_N (io), P20 PR35A/VREF1_3/RDQ32 (io), P22 PR27A/RDQ32 (io), R16 PR38A/RDQ41 (io), R17 PR44A/RDQ41 (io), R20 PR33B/RDQ32 (io), R21 PR27B/RDQ32 (io), R22 PR30A/RDQ32 (io), T15 PB55A (io), T16 PB55B (io), T17 PR44B/RDQ41 (io), T18 PR47B/RDQ50 (io), T19 PR47A/RDQ50 (io), T20 PR33A/RDQ32 (io), T21 PR41A/RDQS41_P (io), T22 PR30B/RDQ32 (io), U18 PR48B/RDQ50 (io), U19 PR48A/RDQ50 (io), U20 PR41B/RDQS41_N (io), U22 PR36A/RDQ41 (io), V17 PB52B (io), V18 PB52A (io), V19 PR51B/RDQ50 (io), V22 PR36B/RDQ41 (io), W19 PR51A/RDQ50 (io), W21 PR42B/RDQ41 (io), W22 PR39B/RDQ41 (io), Y17 PB50A (io), Y18 PB50B (io), Y19 PB53B (io), Y20 PR50B/RDQS50_N (io), Y21 PR42A/RDQ41 (io), Y22 PR39A/RDQ41 (io)
part E pins: AA1 PL48A/LDQ50 (io), AA2 PL51B/LDQ50 (io), AA4 PB5A (io), AA5 PB5B (io), AB3 PB2A (io), AB4 PB2B (io), L2 PL27B/LDQ32 (io), L3 PL27A/LDQ32 (io), L4 PL29A/PCLKT6_0/LDQ32 (io), M1 PL30B/LDQ32 (io), M2 PL30A/LDQ32 (io), M4 PL29B/PCLKC6_0/LDQ32 (io), M5 PL32A/LDQS32_P (io), N1 PL33B/LDQ32 (io), N2 PL33A/LDQ32 (io), N3 PL36A/LDQ41 (io), N4 PL35A/VREF1_6/LDQ32 (io), N5 PL38A/LDQ41 (io), N6 PL32B/LDQS32_N (io), P1 PL39A/LDQ41 (io), P3 PL36B/LDQ41 (io), P4 PL35B/VREF2_6/LDQ32 (io), P5 PL41A/LDQS41_P (io), P6 PL38B/LDQ41 (io), R1 PL39B/LDQ41 (io), R2 PL42B/LDQ41 (io), R3 PL42A/LDQ41 (io), R6 PL41B/LDQS41_N (io), T3 PL44A/LDQ41 (io), T4 PL47A/LDQ50 (io), T6 PL50A/LDQS50_P (io), U3 PL44B/LDQ41 (io), U4 PL47B/LDQ50 (io), U5 PL50B/LDQS50_N (io), V4 PL53A/LDQ50 (io), V5 PL53B/LDQ50 (io), W2 PL45A/LDQ50 (io), W4 PB4A (io), W5 PB7A (io), W6 PB7B (io), Y1 PL45B/LDQ50 (io), Y2 PL48B/LDQ50 (io), Y3 PL51A/LDQ50 (io), Y5 PB4B (io)
part F pins: B1 PL6A (io), B2 PL12A/LDQ14 (io), C1 PL6B (io), C2 PL12B/LDQ14 (io), D1 PL15B/LDQ14 (io), D2 PL15A/LDQ14 (io), D4 PL9B/LDQ14 (io), E1 PL17A/VREF1_7/LDQ14 (io), E2 PL5A (io), E3 PL9A/LDQ14 (io), E4 PL11B/LDQ14 (io), E5 PL11A/LDQ14 (io), F1 PL17B/VREF2_7/LDQ14 (io), F3 PL5B (io), F4 PL14B/LDQS14_N (io), F5 PL14A/LDQS14_P (io), G1 PL18A/LDQ23 (io), H1 PL18B/LDQ23 (io), H2 PL21A/LUM0_GDLLT_FB_A/LDQ23 (io), H3 PL21B/LUM0_GDLLT_FB_B/LDQ23 (io), H4 PL3A (io), H5 PL8A (io), H6 PL8B (io), J1 PL24B/LDQ23 (io), J2 PL24A/LDQ23 (io), J3 PL23A/LDQS23_P (io), J4 PL3B (io), J6 PL20B/LUM0_GDLLT_IN_B/LDQ23 (io), J7 PL20A/LUM0_GDLLT_IN_A/LDQ23 (io), K1 PL26E_A/LUM0_GPLLT_FB_A (in), K3 PL23B/LDQS23_N (io), K4 PL26A/PCLKT7_0/LDQ23 (io), K5 PL26B/PCLKC7_0/LDQ23 (io), K6 PL26E_D/LUM0_GPLLT_IN_B (in), L1 PL26E_B/LUM0_GPLLT_FB_B (in), L5 PL26E_C/LUM0_GPLLT_IN_A (in)
part G pins: A20 PT53A (io), A21 PR9A/DOUT/CSON/CSSPI1N (io), B19 PT50B (io), B20 PT53B (io), B22 PR9B/MCLK (io), C18 PT50A (io), C21 PR6A (io), C22 PR12A/D1 (io), D18 PT55A (io), D19 PT55B (io), D21 PR6B/DI/CSSPI0N/CSSPIN (io), D22 PR12B/D2 (io), E17 PT52B (io), E18 PT52A (io), F18 PR8B/CSN/SN/CONT1N (io), F19 PR8A/CS1N/HOLDN/CONT2N (io), G17 PR14A/D3/SI (io), G18 PR14B/D4/SO (io), G19 PR15A/D5 (io), G20 PR15B/D6/SPID1 (io), H17 PR11B/D0/SPIFASTN (io), H19 PR17A/D7/SPID0 (io), H20 PR17B/BUSY/SISPI (io), J16 PR11A/WRITEN (io)
part H pins: B21 CFG2 (in), C3 TDO (out), C4 TMS (in), C20 PROGRAMN (in), D20 INITN (io), E19 CFG1 (in), E20 CFG0 (in), F20 CCLK (in), F21 DONE (io), G6 TDI (in), G7 TCK (in)
part I pins: AB8 PCSA_HDOUTP3 (out), AB9 PCSA_HDOUTN3 (out), AB10 PCSA_HDOUTN2 (out), AB11 PCSA_HDOUTP2 (out), AB12 PCSA_HDOUTP1 (out), AB13 PCSA_HDOUTN1 (out), AB14 PCSA_HDOUTN0 (out), AB15 PCSA_HDOUTP0 (out), V11 PCSA_REFCLKN (in), V12 PCSA_REFCLKP (in), Y8 PCSA_HDINP3 (in), Y9 PCSA_HDINN3 (in), Y10 PCSA_HDINN2 (in), Y11 PCSA_HDINP2 (in), Y12 PCSA_HDINP1 (in), Y13 PCSA_HDINN1 (in), Y14 PCSA_HDINN0 (in), Y15 PCSA_HDINP0 (in)
part J pins: G10 VCCIO0 (power), G13 VCCIO1 (power), G16 VCCIO8 (power), H7 VCCJ (power), H9 VCCIO0 (power), H11 VCCAUX (power), H12 VCCAUX (power), H14 VCCIO1 (power), H16 VCCIO8 (power), J8 VCCIO7 (power), J9 VCC (power), J10 VCC (power), J11 VCC (power), J12 VCC (power), J13 VCC (power), J14 VCC (power), J15 VCCIO2 (power), K7 VCCIO7 (power), K9 VCCPLL_L (power), K14 VCCPLL_R (power), K16 VCCIO2 (power), L6 VTT7 (power), L8 VCCAUX (power), L9 VCC (power), L14 VCC (power), L15 VCCAUX (power), L17 VTT2 (power), M6 VTT6 (power), M8 VCCAUX (power), M9 VCC (power), M14 VCC (power), M15 VCCAUX (power), M17 VTT3 (power), N7 VCCIO6 (power), N9 VCCPLL_L (power), N14 VCCPLL_R (power), N16 VCCIO3 (power), P8 VCCIO6 (power), P9 VCC (power), P10 VCC (power), P11 VCC (power), P12 VCC (power), P13 VCC (power), P14 VCC (power), P15 VCCIO3 (power), R11 VCCAUX (power), R12 VCCAUX (power), U11 VCCA (power), U12 VCCA (power), V10 VCCA (power), V13 VCCA (power), W8 PCSA_VCCIB3 (power), W9 PCSA_VCCOB3 (power), W10 PCSA_VCCOB2 (power), W11 PCSA_VCCIB2 (power), W12 PCSA_VCCIB1 (power), W13 PCSA_VCCOB1 (power), W14 PCSA_VCCOB0 (power), W15 PCSA_VCCIB0 (power)
part K pins: A1 GND (power), A22 GND (power), AA7 GND (power), AA8 GND (power), AA9 GND (power), AA10 GND (power), AA11 GND (power), AA12 GND (power), AA13 GND (power), AA14 GND (power), AA15 GND (power), AA16 GND (power), AA18 GND (power), AB1 GND (power), AB7 GND (power), AB16 GND (power), AB22 GND (power), B5 GND (power), B9 GND (power), B13 GND (power), B17 GND (power), C11 GND (power), C19 GND (power), D3 GND (power), E8 GND (power), E14 GND (power), E21 GND (power), F2 GND (power), F6 GND (power), F17 GND (power), G11 GND (power), G12 GND (power), H8 GND (power), H10 GND (power), H13 GND (power), H15 GND (power), H18 GND (power), J5 GND (power), J21 GND (power), K2 GND (power), K8 GND (power), K10 GND (power), K11 GND (power), K12 GND (power), K13 GND (power), K15 GND (power), L7 GND (power), L10 GND (power), L11 GND (power), L12 GND (power), L13 GND (power), L16 GND (power), L20 GND (power), M3 GND (power), M7 GND (power), M10 GND (power), M11 GND (power), M12 GND (power), M13 GND (power), M16 GND (power), N8 GND (power), N10 GND (power), N11 GND (power), N12 GND (power), N13 GND (power), N21 GND (power), P2 GND (power), P16 GND (power), P18 GND (power), R5 GND (power), R8 GND (power), R10 GND (power), R13 GND (power), R15 GND (power), T10 GND (power), T11 GND (power), T12 GND (power), T13 GND (power), U6 GND (power), U9 GND (power), U10 GND (power), U13 GND (power), U14 GND (power), U17 GND (power), U21 GND (power), V2 GND (power), V7 GND (power), V8 GND (power), V9 GND (power), V14 GND (power), V15 GND (power), V16 GND (power), W7 GND (power), W16 GND (power), W20 GND (power), Y4 GND (power), Y7 GND (power), Y16 GND (power)
part L pins: A3 NC, A4 NC, A5 NC, A6 NC, A14 NC, A15 NC, AA6 NC, AA17 NC, AB5 NC, AB6 NC, AB17 NC, AB18 NC, AB19 NC, B14 NC, B15 NC, C15 NC, D15 NC, E15 NC, E16 NC, E22 NC, F7 NC, F13 NC, F14 NC, F22 NC, G2 NC, G3 NC, G4 NC, G5 NC, G8 NC, G14 NC, G15 NC, G21 NC, G22 NC, H21 NC, H22 NC, J17 NC, J18 NC, J19 NC, J20 NC, J22 NC, K22 NC, N22 NC, P7 NC, P21 NC, R4 NC, R7 NC, R9 NC, R14 NC, R18 NC, R19 NC, T1 NC, T2 NC, T5 NC, T7 NC, T8 NC, T9 NC, T14 NC, U1 NC, U2 NC, U7 NC, U8 NC, U15 NC, U16 NC, V1 NC, V3 NC, V6 NC, V20 NC, V21 NC, W1 NC, W3 NC, W17 NC, W18 NC, Y6 NC
part M pins: AA3 RESERVE, AB2 RESERVE, N15 XRES
part A text: BANK 0
part B text: BANK 1
part C text: BANK 2
part D text: BANK 3
part E text: BANK 6
part F text: BANK 7
part G text: BANK 8

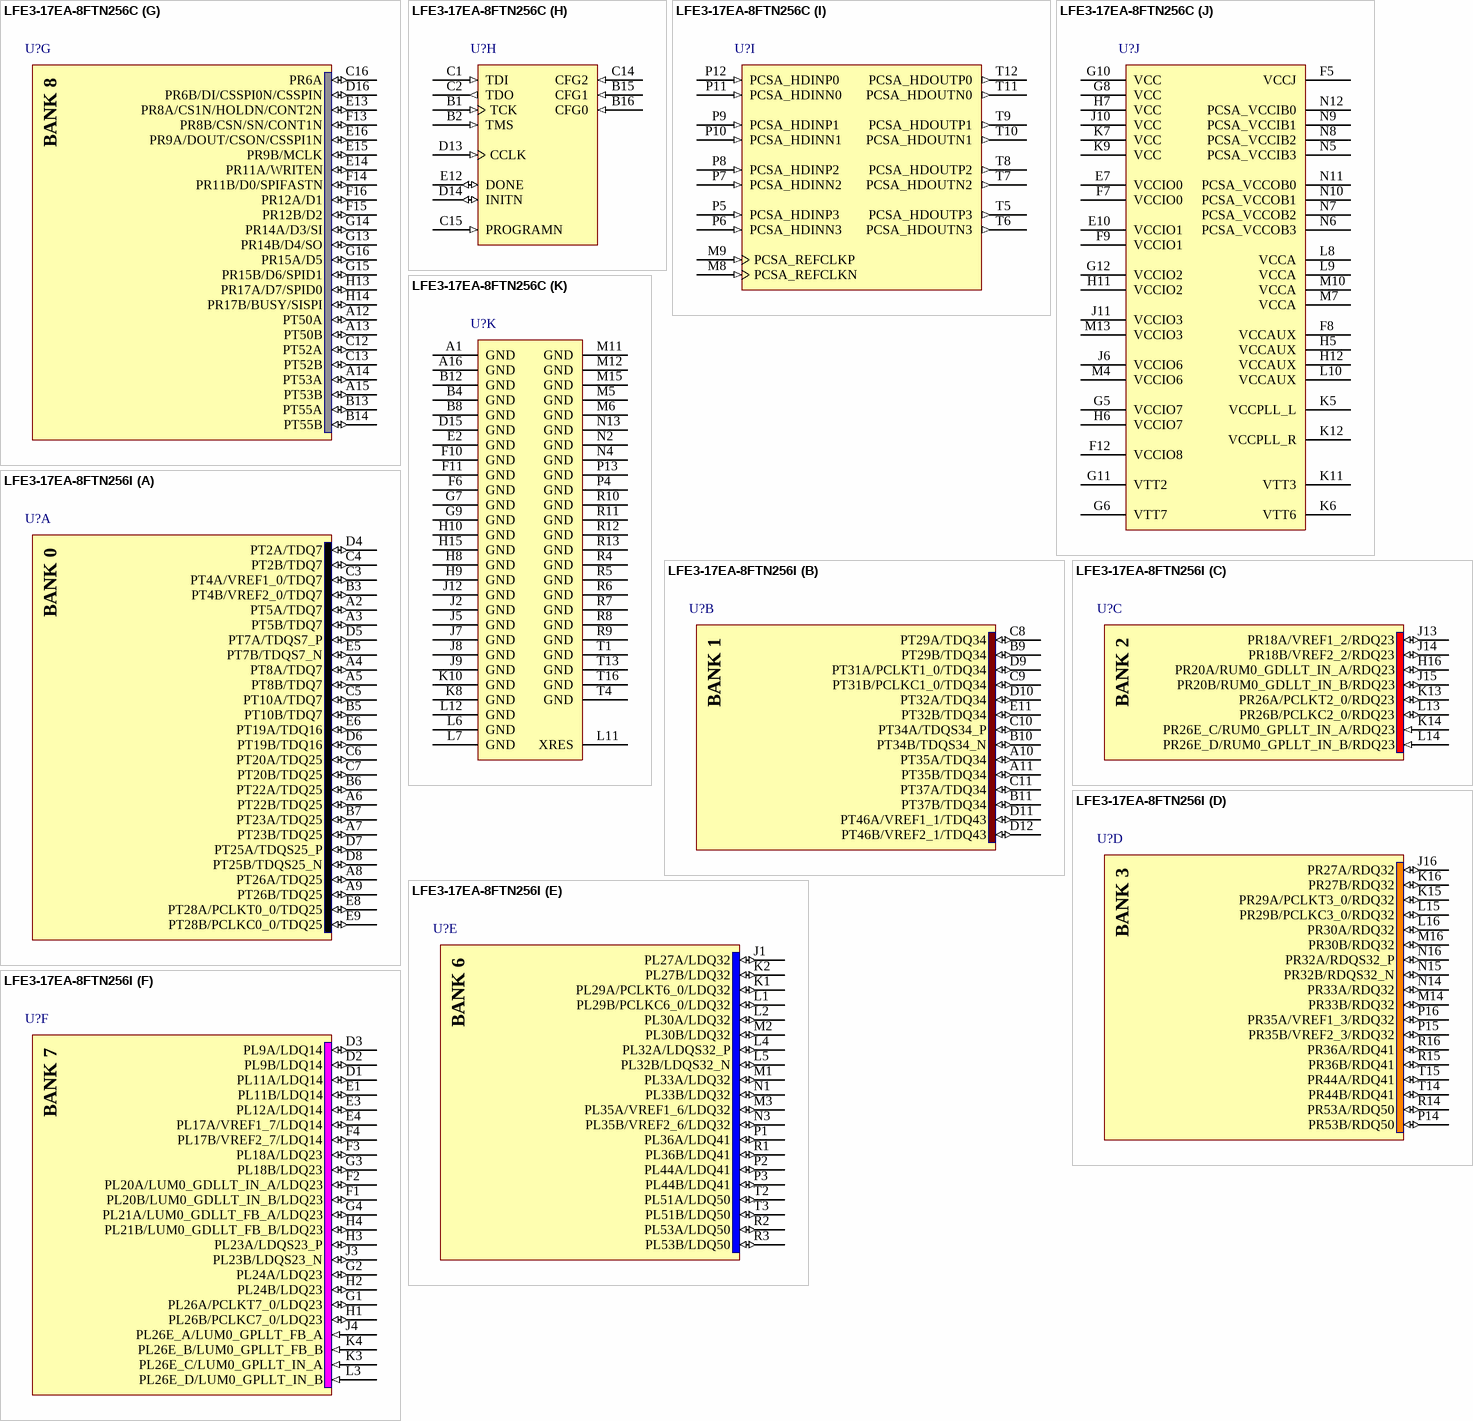
[diagram p13: symbols LFE3-17EA-8FTN256C to LFE3-17EA-8FTN256I]

## LFE3-17EA-8FTN256C
designator U?
ECP3 1.2V FPGA, 133 I/Os, 17K LUTs, 256-Pin BGA, Speed Grade 8, Commercial Grade, Pb-Free; DatasheetVersion: Ver 01.9EA, Jul-2011; PackageVersion: ver02.8, Jul-2011; PackageReference: ftBGA256_2; PackageDescription: 256-Ball ftBGA Package Option 2: LatticeECP3; Code_IPC: BGA100P16X16-256; ComponentLink1Description: Manufacturer URL; ComponentLink1URL: http://www.latticesemi.com/; ComponentLink2Description: Datasheet; ComponentLink2URL: http://www.latticesemi.com/documents/ds1021ea.pdf; ComponentLink3Description: Package Specification; ComponentLink3URL: http://www.latticesemi.com/lit/docs/package/pkg.pdf
footprint ftBGA256_2 (BGA, 256-Leads, Body 17x17mm, Pitch 1mm)
part A pins: A2 PT5A/TDQ7 (io), A3 PT5B/TDQ7 (io), A4 PT8A/TDQ7 (io), A5 PT8B/TDQ7 (io), A6 PT22B/TDQ25 (io), A7 PT23B/TDQ25 (io), A8 PT26A/TDQ25 (io), A9 PT26B/TDQ25 (io), B3 PT4B/VREF2_0/TDQ7 (io), B5 PT10B/TDQ7 (io), B6 PT22A/TDQ25 (io), B7 PT23A/TDQ25 (io), C3 PT4A/VREF1_0/TDQ7 (io), C4 PT2B/TDQ7 (io), C5 PT10A/TDQ7 (io), C6 PT20A/TDQ25 (io), C7 PT20B/TDQ25 (io), D4 PT2A/TDQ7 (io), D5 PT7A/TDQS7_P (io), D6 PT19B/TDQ16 (io), D7 PT25A/TDQS25_P (io), D8 PT25B/TDQS25_N (io), E5 PT7B/TDQS7_N (io), E6 PT19A/TDQ16 (io), E8 PT28A/PCLKT0_0/TDQ25 (io), E9 PT28B/PCLKC0_0/TDQ25 (io)
part B pins: A10 PT35A/TDQ34 (io), A11 PT35B/TDQ34 (io), B9 PT29B/TDQ34 (io), B10 PT34B/TDQS34_N (io), B11 PT37B/TDQ34 (io), C8 PT29A/TDQ34 (io), C9 PT31B/PCLKC1_0/TDQ34 (io), C10 PT34A/TDQS34_P (io), C11 PT37A/TDQ34 (io), D9 PT31A/PCLKT1_0/TDQ34 (io), D10 PT32A/TDQ34 (io), D11 PT46A/VREF1_1/TDQ43 (io), D12 PT46B/VREF2_1/TDQ43 (io), E11 PT32B/TDQ34 (io)
part C pins: H16 PR20A/RUM0_GDLLT_IN_A/RDQ23 (io), J13 PR18A/VREF1_2/RDQ23 (io), J14 PR18B/VREF2_2/RDQ23 (io), J15 PR20B/RUM0_GDLLT_IN_B/RDQ23 (io), K13 PR26A/PCLKT2_0/RDQ23 (io), K14 PR26E_C/RUM0_GPLLT_IN_A/RDQ23 (in), L13 PR26B/PCLKC2_0/RDQ23 (io), L14 PR26E_D/RUM0_GPLLT_IN_B/RDQ23 (in)
part D pins: J16 PR27A/RDQ32 (io), K15 PR29A/PCLKT3_0/RDQ32 (io), K16 PR27B/RDQ32 (io), L15 PR29B/PCLKC3_0/RDQ32 (io), L16 PR30A/RDQ32 (io), M14 PR33B/RDQ32 (io), M16 PR30B/RDQ32 (io), N14 PR33A/RDQ32 (io), N15 PR32B/RDQS32_N (io), N16 PR32A/RDQS32_P (io), P14 PR53B/RDQ50 (io), P15 PR35B/VREF2_3/RDQ32 (io), P16 PR35A/VREF1_3/RDQ32 (io), R14 PR53A/RDQ50 (io), R15 PR36B/RDQ41 (io), R16 PR36A/RDQ41 (io), T14 PR44B/RDQ41 (io), T15 PR44A/RDQ41 (io)
part E pins: J1 PL27A/LDQ32 (io), K1 PL29A/PCLKT6_0/LDQ32 (io), K2 PL27B/LDQ32 (io), L1 PL29B/PCLKC6_0/LDQ32 (io), L2 PL30A/LDQ32 (io), L4 PL32A/LDQS32_P (io), L5 PL32B/LDQS32_N (io), M1 PL33A/LDQ32 (io), M2 PL30B/LDQ32 (io), M3 PL35A/VREF1_6/LDQ32 (io), N1 PL33B/LDQ32 (io), N3 PL35B/VREF2_6/LDQ32 (io), P1 PL36A/LDQ41 (io), P2 PL44A/LDQ41 (io), P3 PL44B/LDQ41 (io), R1 PL36B/LDQ41 (io), R2 PL53A/LDQ50 (io), R3 PL53B/LDQ50 (io), T2 PL51A/LDQ50 (io), T3 PL51B/LDQ50 (io)
part F pins: D1 PL11A/LDQ14 (io), D2 PL9B/LDQ14 (io), D3 PL9A/LDQ14 (io), E1 PL11B/LDQ14 (io), E3 PL12A/LDQ14 (io), E4 PL17A/VREF1_7/LDQ14 (io), F1 PL20B/LUM0_GDLLT_IN_B/LDQ23 (io), F2 PL20A/LUM0_GDLLT_IN_A/LDQ23 (io), F3 PL18A/LDQ23 (io), F4 PL17B/VREF2_7/LDQ14 (io), G1 PL26A/PCLKT7_0/LDQ23 (io), G2 PL24A/LDQ23 (io), G3 PL18B/LDQ23 (io), G4 PL21A/LUM0_GDLLT_FB_A/LDQ23 (io), H1 PL26B/PCLKC7_0/LDQ23 (io), H2 PL24B/LDQ23 (io), H3 PL23A/LDQS23_P (io), H4 PL21B/LUM0_GDLLT_FB_B/LDQ23 (io), J3 PL23B/LDQS23_N (io), J4 PL26E_A/LUM0_GPLLT_FB_A (in), K3 PL26E_C/LUM0_GPLLT_IN_A (in), K4 PL26E_B/LUM0_GPLLT_FB_B (in), L3 PL26E_D/LUM0_GPLLT_IN_B (in)
part G pins: A12 PT50A (io), A13 PT50B (io), A14 PT53A (io), A15 PT53B (io), B13 PT55A (io), B14 PT55B (io), C12 PT52A (io), C13 PT52B (io), C16 PR6A (io), D16 PR6B/DI/CSSPI0N/CSSPIN (io), E13 PR8A/CS1N/HOLDN/CONT2N (io), E14 PR11A/WRITEN (io), E15 PR9B/MCLK (io), E16 PR9A/DOUT/CSON/CSSPI1N (io), F13 PR8B/CSN/SN/CONT1N (io), F14 PR11B/D0/SPIFASTN (io), F15 PR12B/D2 (io), F16 PR12A/D1 (io), G13 PR14B/D4/SO (io), G14 PR14A/D3/SI (io), G15 PR15B/D6/SPID1 (io), G16 PR15A/D5 (io), H13 PR17A/D7/SPID0 (io), H14 PR17B/BUSY/SISPI (io)
part H pins: B1 TCK (in), B2 TMS (in), B15 CFG1 (in), B16 CFG0 (in), C1 TDI (in), C2 TDO (out), C14 CFG2 (in), C15 PROGRAMN (in), D13 CCLK (in), D14 INITN (io), E12 DONE (io)
part I pins: M8 PCSA_REFCLKN (in), M9 PCSA_REFCLKP (in), P5 PCSA_HDINP3 (in), P6 PCSA_HDINN3 (in), P7 PCSA_HDINN2 (in), P8 PCSA_HDINP2 (in), P9 PCSA_HDINP1 (in), P10 PCSA_HDINN1 (in), P11 PCSA_HDINN0 (in), P12 PCSA_HDINP0 (in), T5 PCSA_HDOUTP3 (out), T6 PCSA_HDOUTN3 (out), T7 PCSA_HDOUTN2 (out), T8 PCSA_HDOUTP2 (out), T9 PCSA_HDOUTP1 (out), T10 PCSA_HDOUTN1 (out), T11 PCSA_HDOUTN0 (out), T12 PCSA_HDOUTP0 (out)
part J pins: E7 VCCIO0 (power), E10 VCCIO1 (power), F5 VCCJ (power), F7 VCCIO0 (power), F8 VCCAUX (power), F9 VCCIO1 (power), F12 VCCIO8 (power), G5 VCCIO7 (power), G6 VTT7 (power), G8 VCC (power), G10 VCC (power), G11 VTT2 (power), G12 VCCIO2 (power), H5 VCCAUX (power), H6 VCCIO7 (power), H7 VCC (power), H11 VCCIO2 (power), H12 VCCAUX (power), J6 VCCIO6 (power), J10 VCC (power), J11 VCCIO3 (power), K5 VCCPLL_L (power), K6 VTT6 (power), K7 VCC (power), K9 VCC (power), K11 VTT3 (power), K12 VCCPLL_R (power), L8 VCCA (power), L9 VCCA (power), L10 VCCAUX (power), M4 VCCIO6 (power), M7 VCCA (power), M10 VCCA (power), M13 VCCIO3 (power), N5 PCSA_VCCIB3 (power), N6 PCSA_VCCOB3 (power), N7 PCSA_VCCOB2 (power), N8 PCSA_VCCIB2 (power), N9 PCSA_VCCIB1 (power), N10 PCSA_VCCOB1 (power), N11 PCSA_VCCOB0 (power), N12 PCSA_VCCIB0 (power)
part K pins: A1 GND (power), A16 GND (power), B4 GND (power), B8 GND (power), B12 GND (power), D15 GND (power), E2 GND (power), F6 GND (power), F10 GND (power), F11 GND (power), G7 GND (power), G9 GND (power), H8 GND (power), H9 GND (power), H10 GND (power), H15 GND (power), J2 GND (power), J5 GND (power), J7 GND (power), J8 GND (power), J9 GND (power), J12 GND (power), K8 GND (power), K10 GND (power), L6 GND (power), L7 GND (power), L11 XRES, L12 GND (power), M5 GND (power), M6 GND (power), M11 GND (power), M12 GND (power), M15 GND (power), N2 GND (power), N4 GND (power), N13 GND (power), P4 GND (power), P13 GND (power), R4 GND (power), R5 GND (power), R6 GND (power), R7 GND (power), R8 GND (power), R9 GND (power), R10 GND (power), R11 GND (power), R12 GND (power), R13 GND (power), T1 GND (power), T4 GND (power), T13 GND (power), T16 GND (power)
part A text: BANK 0
part B text: BANK 1
part C text: BANK 2
part D text: BANK 3
part E text: BANK 6
part F text: BANK 7
part G text: BANK 8

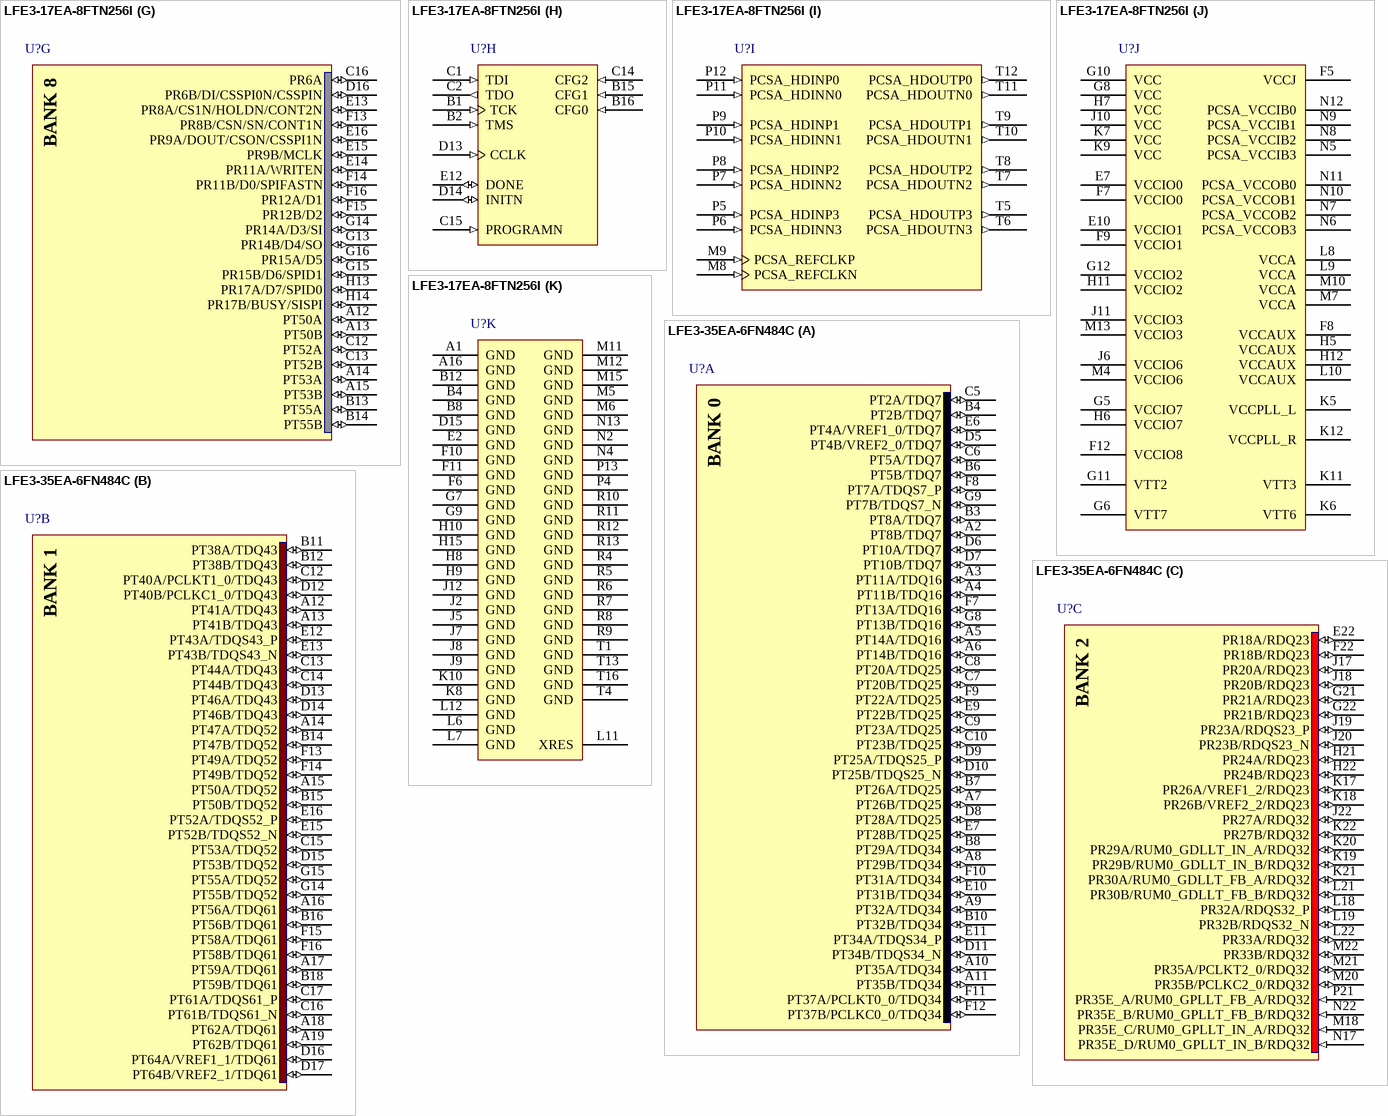
[diagram p14: symbols LFE3-17EA-8FTN256I to LFE3-35EA-6FN484C]

## LFE3-17EA-8FTN256I
designator U?
ECP3 1.2V FPGA, 133 I/Os, 17K LUTs, 256-Pin BGA, Speed Grade 8, Industrial Grade, Pb-Free; DatasheetVersion: Ver 01.9EA, Jul-2011; PackageVersion: ver02.8, Jul-2011; PackageReference: ftBGA256_2; PackageDescription: 256-Ball ftBGA Package Option 2: LatticeECP3; Code_IPC: BGA100P16X16-256; ComponentLink1Description: Manufacturer URL; ComponentLink1URL: http://www.latticesemi.com/; ComponentLink2Description: Datasheet; ComponentLink2URL: http://www.latticesemi.com/documents/ds1021ea.pdf; ComponentLink3Description: Package Specification; ComponentLink3URL: http://www.latticesemi.com/lit/docs/package/pkg.pdf
footprint ftBGA256_2 (BGA, 256-Leads, Body 17x17mm, Pitch 1mm)
part A pins: A2 PT5A/TDQ7 (io), A3 PT5B/TDQ7 (io), A4 PT8A/TDQ7 (io), A5 PT8B/TDQ7 (io), A6 PT22B/TDQ25 (io), A7 PT23B/TDQ25 (io), A8 PT26A/TDQ25 (io), A9 PT26B/TDQ25 (io), B3 PT4B/VREF2_0/TDQ7 (io), B5 PT10B/TDQ7 (io), B6 PT22A/TDQ25 (io), B7 PT23A/TDQ25 (io), C3 PT4A/VREF1_0/TDQ7 (io), C4 PT2B/TDQ7 (io), C5 PT10A/TDQ7 (io), C6 PT20A/TDQ25 (io), C7 PT20B/TDQ25 (io), D4 PT2A/TDQ7 (io), D5 PT7A/TDQS7_P (io), D6 PT19B/TDQ16 (io), D7 PT25A/TDQS25_P (io), D8 PT25B/TDQS25_N (io), E5 PT7B/TDQS7_N (io), E6 PT19A/TDQ16 (io), E8 PT28A/PCLKT0_0/TDQ25 (io), E9 PT28B/PCLKC0_0/TDQ25 (io)
part B pins: A10 PT35A/TDQ34 (io), A11 PT35B/TDQ34 (io), B9 PT29B/TDQ34 (io), B10 PT34B/TDQS34_N (io), B11 PT37B/TDQ34 (io), C8 PT29A/TDQ34 (io), C9 PT31B/PCLKC1_0/TDQ34 (io), C10 PT34A/TDQS34_P (io), C11 PT37A/TDQ34 (io), D9 PT31A/PCLKT1_0/TDQ34 (io), D10 PT32A/TDQ34 (io), D11 PT46A/VREF1_1/TDQ43 (io), D12 PT46B/VREF2_1/TDQ43 (io), E11 PT32B/TDQ34 (io)
part C pins: H16 PR20A/RUM0_GDLLT_IN_A/RDQ23 (io), J13 PR18A/VREF1_2/RDQ23 (io), J14 PR18B/VREF2_2/RDQ23 (io), J15 PR20B/RUM0_GDLLT_IN_B/RDQ23 (io), K13 PR26A/PCLKT2_0/RDQ23 (io), K14 PR26E_C/RUM0_GPLLT_IN_A/RDQ23 (in), L13 PR26B/PCLKC2_0/RDQ23 (io), L14 PR26E_D/RUM0_GPLLT_IN_B/RDQ23 (in)
part D pins: J16 PR27A/RDQ32 (io), K15 PR29A/PCLKT3_0/RDQ32 (io), K16 PR27B/RDQ32 (io), L15 PR29B/PCLKC3_0/RDQ32 (io), L16 PR30A/RDQ32 (io), M14 PR33B/RDQ32 (io), M16 PR30B/RDQ32 (io), N14 PR33A/RDQ32 (io), N15 PR32B/RDQS32_N (io), N16 PR32A/RDQS32_P (io), P14 PR53B/RDQ50 (io), P15 PR35B/VREF2_3/RDQ32 (io), P16 PR35A/VREF1_3/RDQ32 (io), R14 PR53A/RDQ50 (io), R15 PR36B/RDQ41 (io), R16 PR36A/RDQ41 (io), T14 PR44B/RDQ41 (io), T15 PR44A/RDQ41 (io)
part E pins: J1 PL27A/LDQ32 (io), K1 PL29A/PCLKT6_0/LDQ32 (io), K2 PL27B/LDQ32 (io), L1 PL29B/PCLKC6_0/LDQ32 (io), L2 PL30A/LDQ32 (io), L4 PL32A/LDQS32_P (io), L5 PL32B/LDQS32_N (io), M1 PL33A/LDQ32 (io), M2 PL30B/LDQ32 (io), M3 PL35A/VREF1_6/LDQ32 (io), N1 PL33B/LDQ32 (io), N3 PL35B/VREF2_6/LDQ32 (io), P1 PL36A/LDQ41 (io), P2 PL44A/LDQ41 (io), P3 PL44B/LDQ41 (io), R1 PL36B/LDQ41 (io), R2 PL53A/LDQ50 (io), R3 PL53B/LDQ50 (io), T2 PL51A/LDQ50 (io), T3 PL51B/LDQ50 (io)
part F pins: D1 PL11A/LDQ14 (io), D2 PL9B/LDQ14 (io), D3 PL9A/LDQ14 (io), E1 PL11B/LDQ14 (io), E3 PL12A/LDQ14 (io), E4 PL17A/VREF1_7/LDQ14 (io), F1 PL20B/LUM0_GDLLT_IN_B/LDQ23 (io), F2 PL20A/LUM0_GDLLT_IN_A/LDQ23 (io), F3 PL18A/LDQ23 (io), F4 PL17B/VREF2_7/LDQ14 (io), G1 PL26A/PCLKT7_0/LDQ23 (io), G2 PL24A/LDQ23 (io), G3 PL18B/LDQ23 (io), G4 PL21A/LUM0_GDLLT_FB_A/LDQ23 (io), H1 PL26B/PCLKC7_0/LDQ23 (io), H2 PL24B/LDQ23 (io), H3 PL23A/LDQS23_P (io), H4 PL21B/LUM0_GDLLT_FB_B/LDQ23 (io), J3 PL23B/LDQS23_N (io), J4 PL26E_A/LUM0_GPLLT_FB_A (in), K3 PL26E_C/LUM0_GPLLT_IN_A (in), K4 PL26E_B/LUM0_GPLLT_FB_B (in), L3 PL26E_D/LUM0_GPLLT_IN_B (in)
part G pins: A12 PT50A (io), A13 PT50B (io), A14 PT53A (io), A15 PT53B (io), B13 PT55A (io), B14 PT55B (io), C12 PT52A (io), C13 PT52B (io), C16 PR6A (io), D16 PR6B/DI/CSSPI0N/CSSPIN (io), E13 PR8A/CS1N/HOLDN/CONT2N (io), E14 PR11A/WRITEN (io), E15 PR9B/MCLK (io), E16 PR9A/DOUT/CSON/CSSPI1N (io), F13 PR8B/CSN/SN/CONT1N (io), F14 PR11B/D0/SPIFASTN (io), F15 PR12B/D2 (io), F16 PR12A/D1 (io), G13 PR14B/D4/SO (io), G14 PR14A/D3/SI (io), G15 PR15B/D6/SPID1 (io), G16 PR15A/D5 (io), H13 PR17A/D7/SPID0 (io), H14 PR17B/BUSY/SISPI (io)
part H pins: B1 TCK (in), B2 TMS (in), B15 CFG1 (in), B16 CFG0 (in), C1 TDI (in), C2 TDO (out), C14 CFG2 (in), C15 PROGRAMN (in), D13 CCLK (in), D14 INITN (io), E12 DONE (io)
part I pins: M8 PCSA_REFCLKN (in), M9 PCSA_REFCLKP (in), P5 PCSA_HDINP3 (in), P6 PCSA_HDINN3 (in), P7 PCSA_HDINN2 (in), P8 PCSA_HDINP2 (in), P9 PCSA_HDINP1 (in), P10 PCSA_HDINN1 (in), P11 PCSA_HDINN0 (in), P12 PCSA_HDINP0 (in), T5 PCSA_HDOUTP3 (out), T6 PCSA_HDOUTN3 (out), T7 PCSA_HDOUTN2 (out), T8 PCSA_HDOUTP2 (out), T9 PCSA_HDOUTP1 (out), T10 PCSA_HDOUTN1 (out), T11 PCSA_HDOUTN0 (out), T12 PCSA_HDOUTP0 (out)
part J pins: E7 VCCIO0 (power), E10 VCCIO1 (power), F5 VCCJ (power), F7 VCCIO0 (power), F8 VCCAUX (power), F9 VCCIO1 (power), F12 VCCIO8 (power), G5 VCCIO7 (power), G6 VTT7 (power), G8 VCC (power), G10 VCC (power), G11 VTT2 (power), G12 VCCIO2 (power), H5 VCCAUX (power), H6 VCCIO7 (power), H7 VCC (power), H11 VCCIO2 (power), H12 VCCAUX (power), J6 VCCIO6 (power), J10 VCC (power), J11 VCCIO3 (power), K5 VCCPLL_L (power), K6 VTT6 (power), K7 VCC (power), K9 VCC (power), K11 VTT3 (power), K12 VCCPLL_R (power), L8 VCCA (power), L9 VCCA (power), L10 VCCAUX (power), M4 VCCIO6 (power), M7 VCCA (power), M10 VCCA (power), M13 VCCIO3 (power), N5 PCSA_VCCIB3 (power), N6 PCSA_VCCOB3 (power), N7 PCSA_VCCOB2 (power), N8 PCSA_VCCIB2 (power), N9 PCSA_VCCIB1 (power), N10 PCSA_VCCOB1 (power), N11 PCSA_VCCOB0 (power), N12 PCSA_VCCIB0 (power)
part K pins: A1 GND (power), A16 GND (power), B4 GND (power), B8 GND (power), B12 GND (power), D15 GND (power), E2 GND (power), F6 GND (power), F10 GND (power), F11 GND (power), G7 GND (power), G9 GND (power), H8 GND (power), H9 GND (power), H10 GND (power), H15 GND (power), J2 GND (power), J5 GND (power), J7 GND (power), J8 GND (power), J9 GND (power), J12 GND (power), K8 GND (power), K10 GND (power), L6 GND (power), L7 GND (power), L11 XRES, L12 GND (power), M5 GND (power), M6 GND (power), M11 GND (power), M12 GND (power), M15 GND (power), N2 GND (power), N4 GND (power), N13 GND (power), P4 GND (power), P13 GND (power), R4 GND (power), R5 GND (power), R6 GND (power), R7 GND (power), R8 GND (power), R9 GND (power), R10 GND (power), R11 GND (power), R12 GND (power), R13 GND (power), T1 GND (power), T4 GND (power), T13 GND (power), T16 GND (power)
part A text: BANK 0
part B text: BANK 1
part C text: BANK 2
part D text: BANK 3
part E text: BANK 6
part F text: BANK 7
part G text: BANK 8

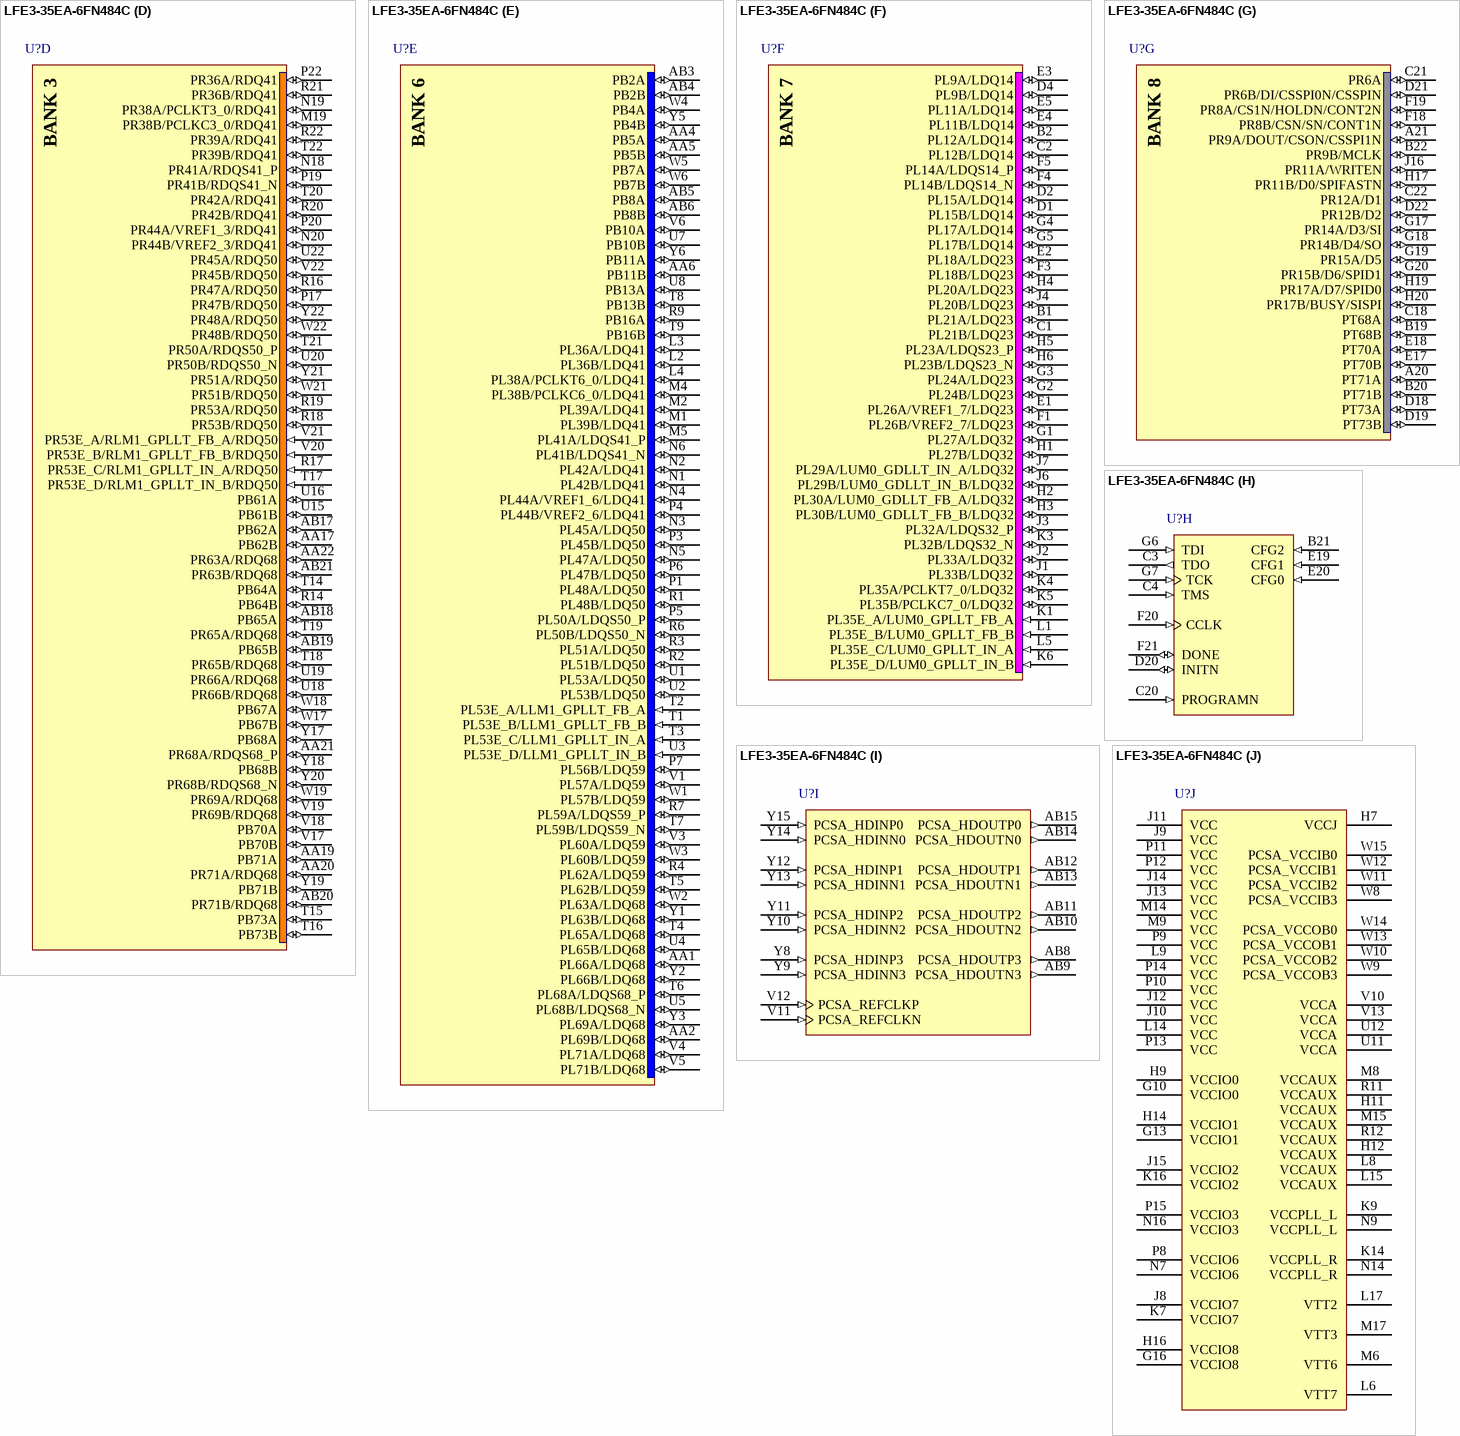
[diagram p15: symbol LFE3-35EA-6FN484C]

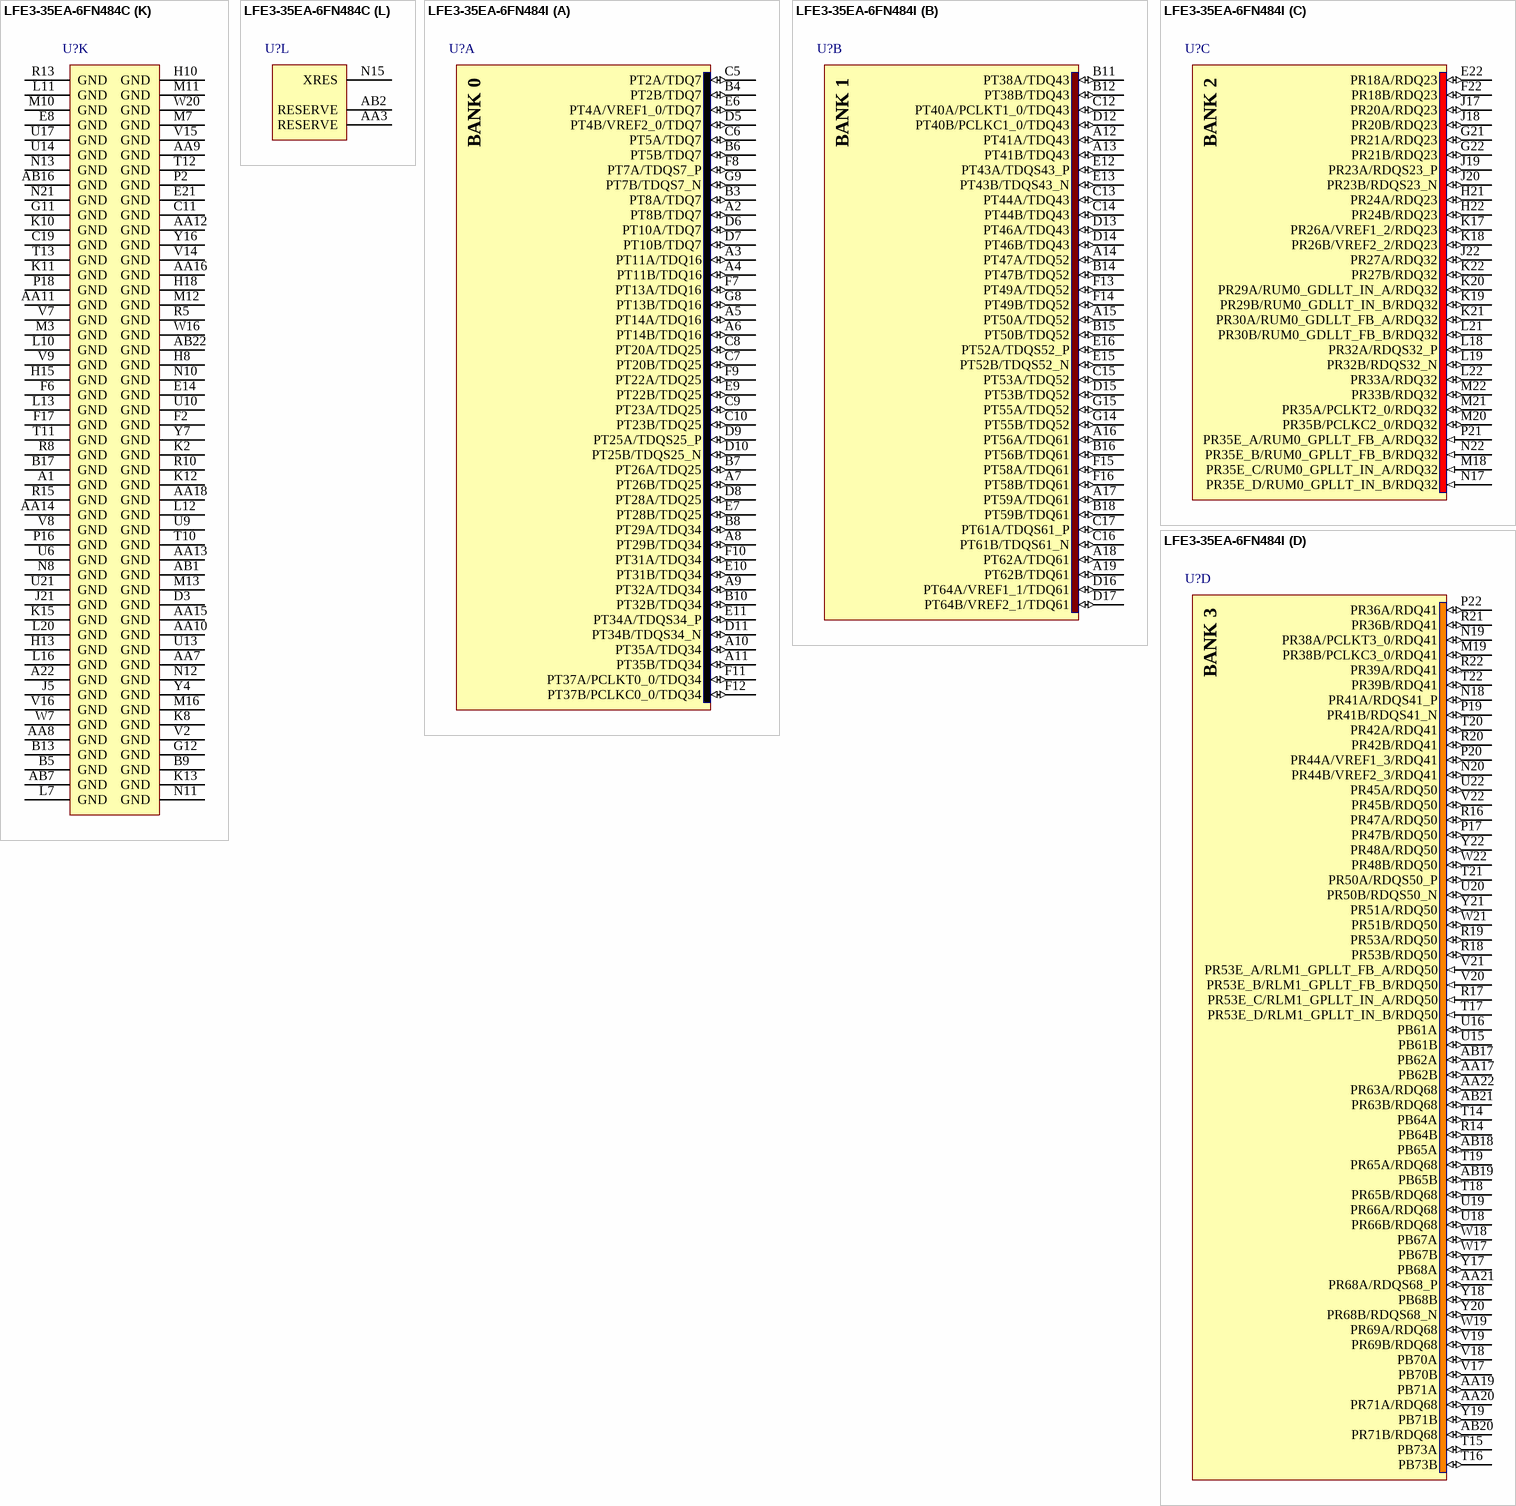
[diagram p16: symbols LFE3-35EA-6FN484C to LFE3-35EA-6FN484I]